# Altium schematic symbol library Schematic-Lib-ABahlmann-IC.SchLib: 124 symbols (part 4 of 4)
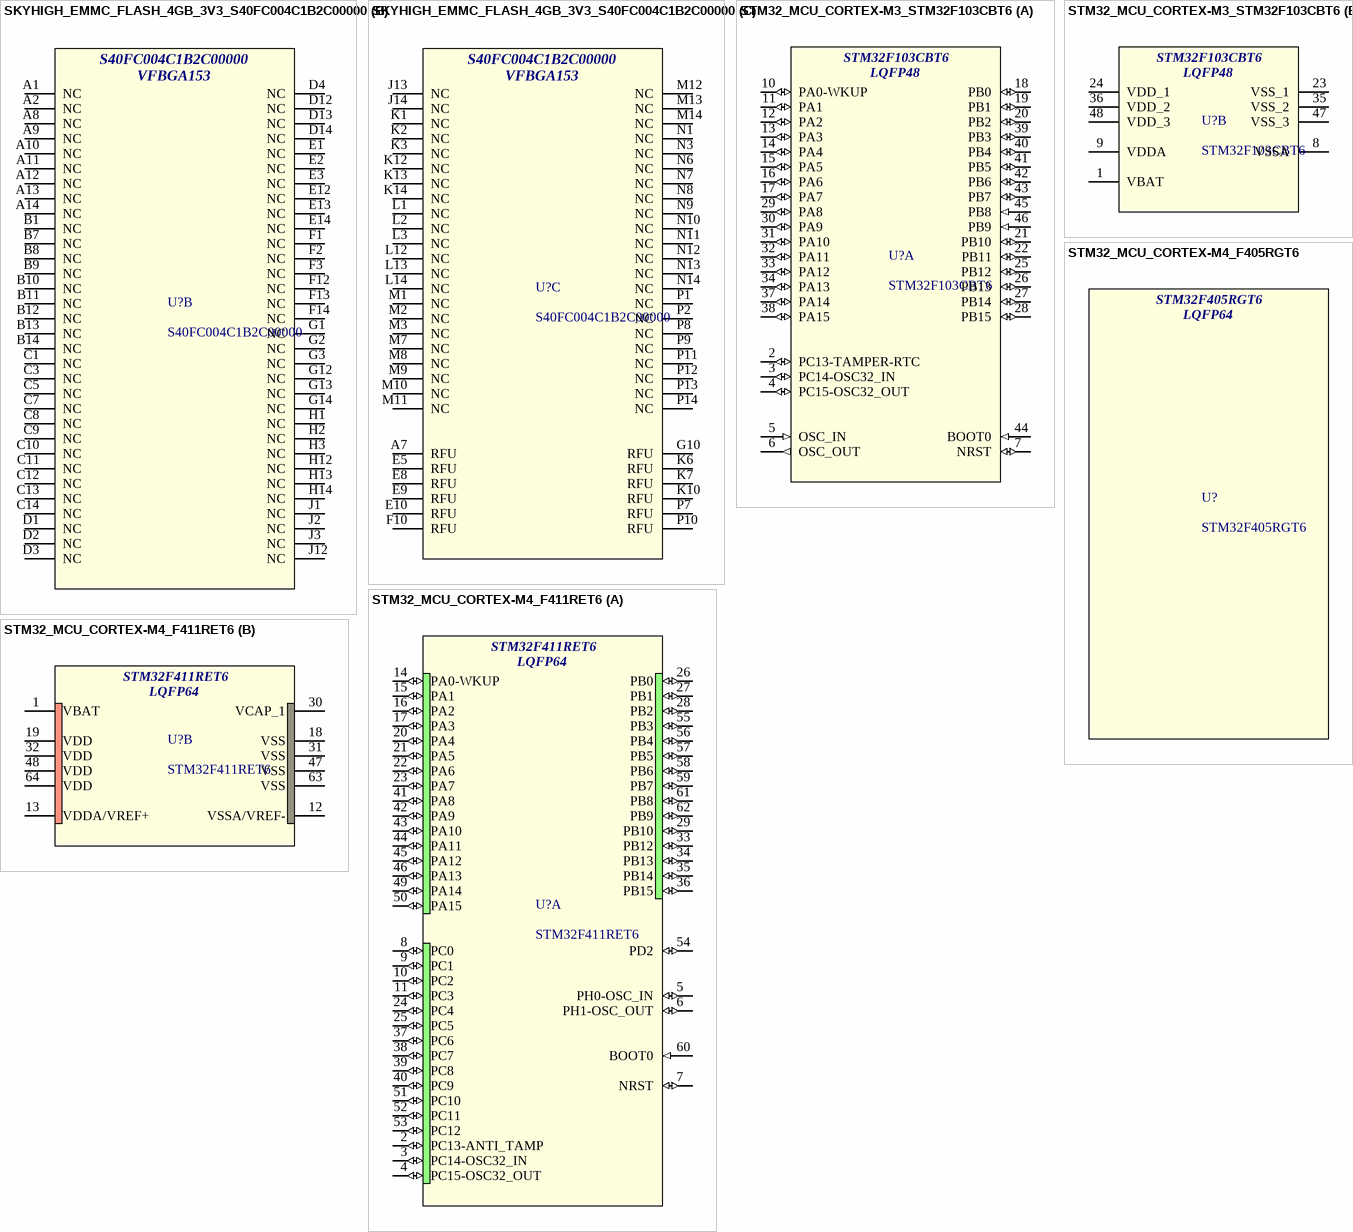
[diagram p24: symbols SKYHIGH_EMMC_FLASH_4GB_3V3_S40FC004C1B2C00000 to STM32_MCU_CORTEX-M4_F411RET6]

## STM32_MCU_CORTEX-M3_STM32F103CBT6
designator U?, comment STM32F103CBT6
ARM® Cortex®-M3 STM32F1 Microcontroller IC 32-Bit 72MHz 128KB (128K x 8) FLASH; ComponentLink1Description: Digikey; ComponentLink1URL: https://www.digikey.ca/en/products/detail/stmicroelectronics/STM32F103CBT6/1754420; ComponentLink2Description: Datasheet; ComponentLink2URL: https://www.st.com/resource/en/datasheet/stm32f103cb.pdf
footprint STM32_MCU_CORTEX-M3_STM32F103CBT6 (ARM® Cortex®-M3 STM32F1 Microcontroller IC 32-Bit 72MHz 128KB (128K x 8) FLASH)
part A pins: 2 PC13-TAMPER-RTC (io), 3 PC14-OSC32_IN (io), 4 PC15-OSC32_OUT (io), 5 OSC_IN (in), 6 OSC_OUT (out), 7 NRST (io), 10 PA0-WKUP (io), 11 PA1 (io), 12 PA2 (io), 13 PA3 (io), 14 PA4 (io), 15 PA5 (io), 16 PA6 (io), 17 PA7 (io), 18 PB0 (io), 19 PB1 (io), 20 PB2 (io), 21 PB10 (io), 22 PB11 (io), 25 PB12 (io), 26 PB13 (io), 27 PB14 (io), 28 PB15 (io), 29 PA8 (io), 30 PA9 (io), 31 PA10 (io), 32 PA11 (io), 33 PA12 (io), 34 PA13 (io), 37 PA14 (io), 38 PA15 (io), 39 PB3 (io), 40 PB4 (io), 41 PB5 (io), 42 PB6 (io), 43 PB7 (io), 44 BOOT0 (in), 45 PB8 (in), 46 PB9 (in)
part B pins: 1 VBAT (power), 8 VSSA (power), 9 VDDA (power), 23 VSS_1 (power), 24 VDD_1 (power), 35 VSS_2 (power), 36 VDD_2 (power), 47 VSS_3 (power), 48 VDD_3 (power)
part A text: LQFP48
part B text: LQFP48

## STM32_MCU_CORTEX-M4_F405RGT6
designator U?, comment STM32F405RGT6
ARM® Cortex®-M4 STM32F4 Microcontroller IC 32-Bit 168MHz 1MB (1M x 8) FLASH 64-LQFP (10x10); ComponentLink1Description: Digikey; ComponentLink1URL: https://www.digikey.ca/en/products/detail/stmicroelectronics/STM32F405RGT6/2754208; ComponentLink2Description: Datasheet; ComponentLink2URL: https://www.st.com/content/ccc/resource/technical/document/datasheet/ef/92/76/6d/bb/c2/4f/f7/DM00037051.pdf/files/DM00037051.pdf/jcr:content/translations/en.DM00037051.pdf
text: LQFP64

## STM32_MCU_CORTEX-M4_F411RET6
designator U?, comment STM32F411RET6
ARM® Cortex®-M4 STM32F4 Microcontroller IC 32-Bit 100MHz 512KB (512K x 8) FLASH 64-LQFP (10x10); ComponentLink1Description: Digikey; ComponentLink1URL: https://www.digikey.ca/en/products/detail/stmicroelectronics/STM32F411RET6/4935722; ComponentLink2Description: Datasheet; ComponentLink2URL: https://www.st.com/content/ccc/resource/technical/document/datasheet/b3/a5/46/3b/b4/e5/4c/85/DM00115249.pdf/files/DM00115249.pdf/jcr:content/translations/en.DM00115249.pdf; ComponentLink3Description: LCSC; ComponentLink3URL: https://www.lcsc.com/product-detail/C94355.html?s_z=n_STM32F411RET6
footprint LQFP-64-0.5mm (TSQFP, 64-Leads, Body 10.00x10.00mm, Pitch 0.50mm)
part A pins: 2 PC13-ANTI_TAMP (io), 3 PC14-OSC32_IN (io), 4 PC15-OSC32_OUT (io), 5 PH0-OSC_IN (io), 6 PH1-OSC_OUT (io), 7 NRST (io), 8 PC0 (io), 9 PC1 (io), 10 PC2 (io), 11 PC3 (io), 14 PA0-WKUP (io), 15 PA1 (io), 16 PA2 (io), 17 PA3 (io), 20 PA4 (io), 21 PA5 (io), 22 PA6 (io), 23 PA7 (io), 24 PC4 (io), 25 PC5 (io), 26 PB0 (io), 27 PB1 (io), 28 PB2 (io), 29 PB10 (io), 33 PB12 (io), 34 PB13 (io), 35 PB14 (io), 36 PB15 (io), 37 PC6 (io), 38 PC7 (io), 39 PC8 (io), 40 PC9 (io), 41 PA8 (io), 42 PA9 (io), 43 PA10 (io), 44 PA11 (io), 45 PA12 (io), 46 PA13 (io), 49 PA14 (io), 50 PA15 (io), 51 PC10 (io), 52 PC11 (io), 53 PC12 (io), 54 PD2 (io), 55 PB3 (io), 56 PB4 (io), 57 PB5 (io), 58 PB6 (io), 59 PB7 (io), 60 BOOT0 (in), 61 PB8 (io), 62 PB9 (io)
part B pins: 1 VBAT, 12 VSSA/VREF-, 13 VDDA/VREF+, 18 VSS, 19 VDD, 30 VCAP_1, 31 VSS, 32 VDD, 47 VSS, 48 VDD, 63 VSS, 64 VDD
part A text: LQFP64
part B text: LQFP64

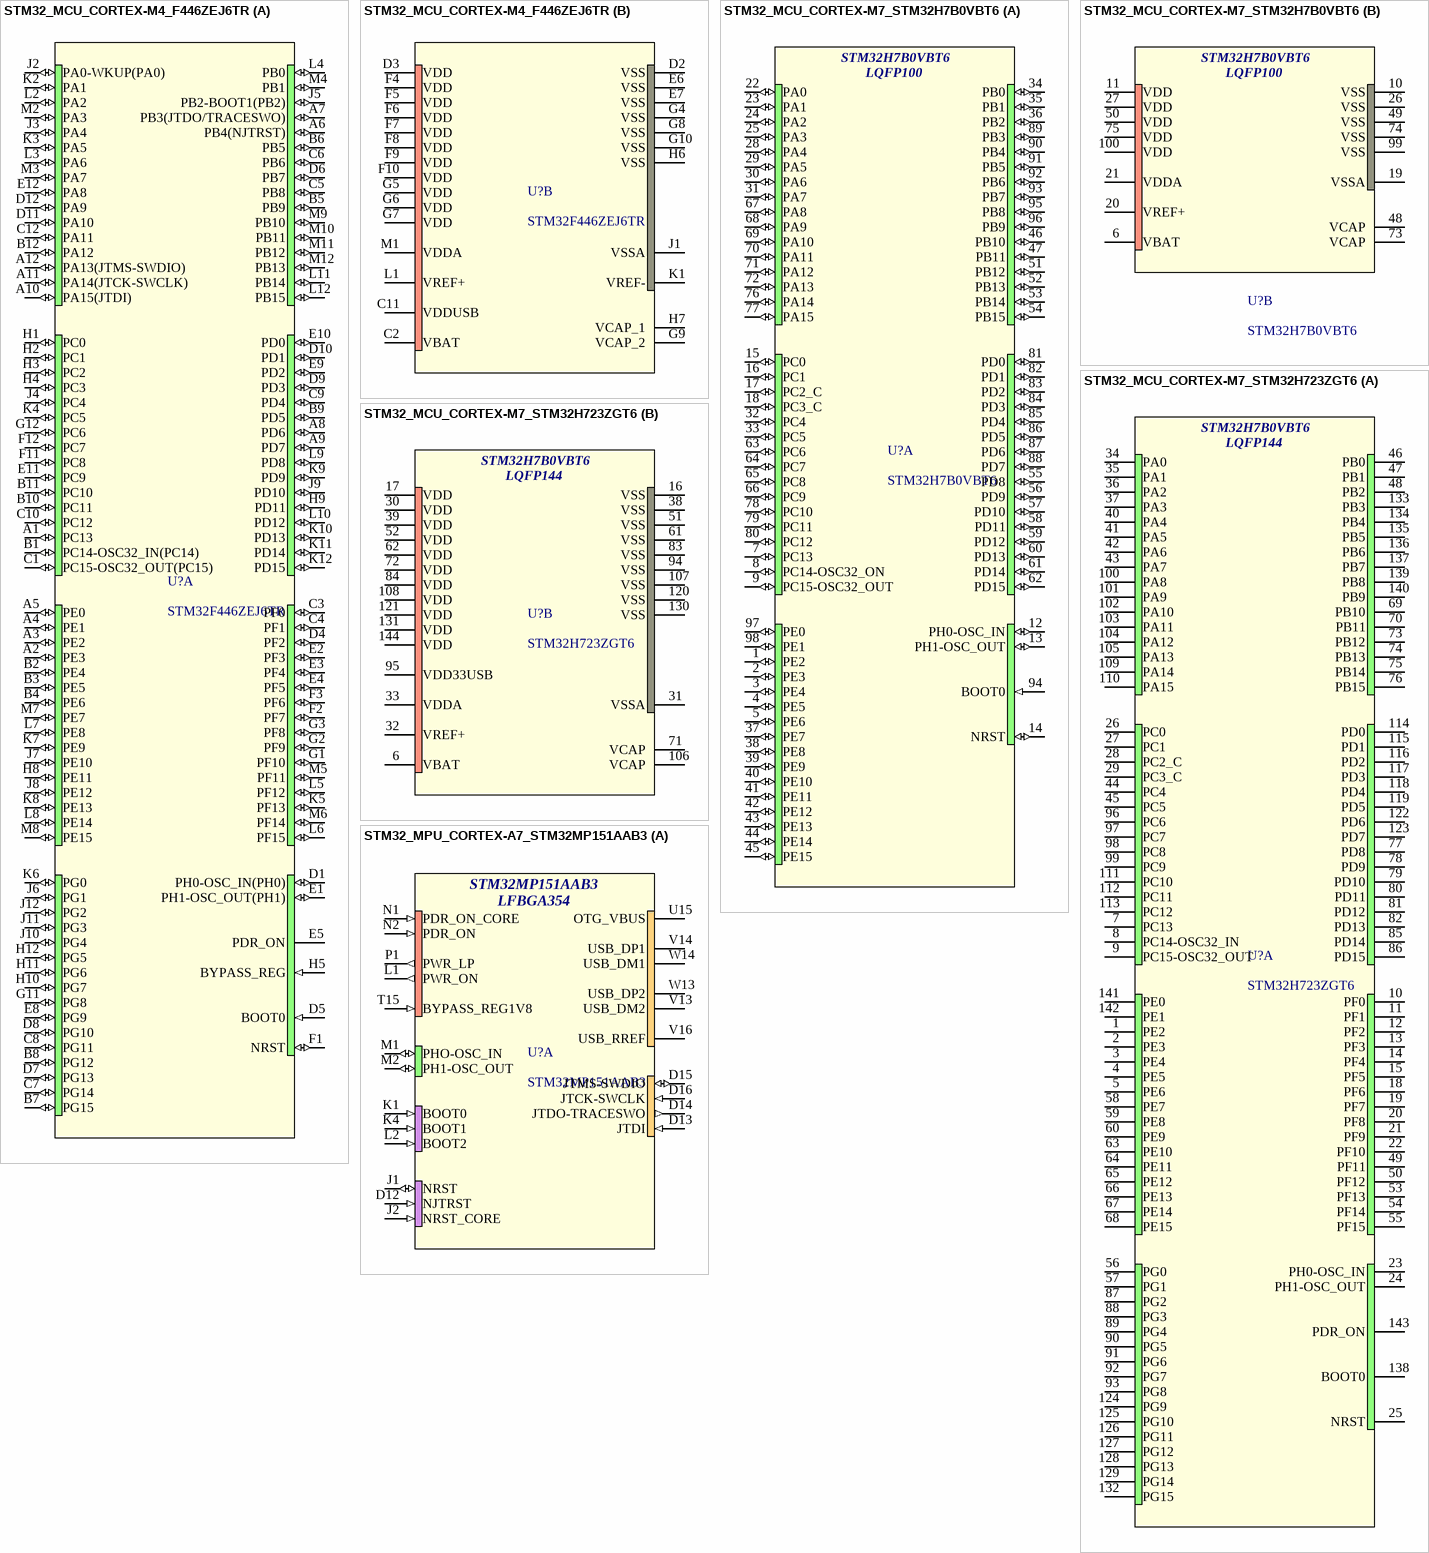
[diagram p17: symbols STM32_MCU_CORTEX-M4_F446ZEJ6TR to STM32_MPU_CORTEX-A7_STM32MP151AAB3]

## STM32_MCU_CORTEX-M4_F446ZEJ6TR
designator U?, comment STM32F446ZEJ6TR
ARM® Cortex®-M4 STM32F4 Microcontroller IC 32-Bit 180MHz 512KB (512K x 8) FLASH 144-UFBGA (10x10); ComponentLink1Description: Digikey; ComponentLink1URL: https://www.digikey.com/en/products/detail/stmicroelectronics/STM32F446ZEJ6TR/7313122; ComponentLink2Description: Datasheet; ComponentLink2URL: https://www.st.com/content/ccc/resource/technical/document/datasheet/65/cb/75/50/53/d6/48/24/DM00141306.pdf/files/DM00141306.pdf/jcr:content/translations/en.DM00141306.pdf
footprint STM32_MCU_CORTEX-M4_F446ZEJ6TR (ARM® Cortex®-M4 STM32F4 Microcontroller IC 32-Bit 180MHz 512KB (512K x 8) FLASH 144-UFBGA (10x10))
part A pins: A1 PC13 (io), A2 PE3 (io), A3 PE2 (io), A4 PE1 (io), A5 PE0 (io), A6 PB4(NJTRST) (io), A7 PB3(JTDO/TRACESWO) (io), A8 PD6 (io), A9 PD7 (io), A10 PA15(JTDI) (io), A11 PA14(JTCK-SWCLK) (io), A12 PA13(JTMS-SWDIO) (io), B1 PC14-OSC32_IN(PC14) (io), B2 PE4 (io), B3 PE5 (io), B4 PE6 (io), B5 PB9 (io), B6 PB5 (io), B7 PG15 (io), B8 PG12 (io), B9 PD5 (io), B10 PC11 (io), B11 PC10 (io), B12 PA12 (io), C1 PC15-OSC32_OUT(PC15) (io), C3 PF0 (io), C4 PF1 (io), C5 PB8 (io), C6 PB6 (io), C7 PG14 (io), C8 PG11 (io), C9 PD4 (io), C10 PC12 (io), C12 PA11 (io), D1 PH0-OSC_IN(PH0) (io), D4 PF2 (io), D5 BOOT0 (in), D6 PB7 (io), D7 PG13 (io), D8 PG10 (io), D9 PD3 (io), D10 PD1 (io), D11 PA10 (io), D12 PA9 (io), E1 PH1-OSC_OUT(PH1) (io), E2 PF3 (io), E3 PF4 (io), E4 PF5 (io), E5 PDR_ON (power), E8 PG9 (io), E9 PD2 (io), E10 PD0 (io), E11 PC9 (io), E12 PA8 (io), F1 NRST (io), F2 PF7 (io), F3 PF6 (io), F11 PC8 (io), F12 PC7 (io), G1 PF10 (io), G2 PF9 (io), G3 PF8 (io), G11 PG8 (io), G12 PC6 (io), H1 PC0 (io), H2 PC1 (io), H3 PC2 (io), H4 PC3 (io), H5 BYPASS_REG (in), H8 PE11 (io), H9 PD11 (io), H10 PG7 (io), H11 PG6 (io), H12 PG5 (io), J2 PA0-WKUP(PA0) (io), J3 PA4 (io), J4 PC4 (io), J5 PB2-BOOT1(PB2) (io), J6 PG1 (io), J7 PE10 (io), J8 PE12 (io), J9 PD10 (io), J10 PG4 (io), J11 PG3 (io), J12 PG2 (io), K2 PA1 (io), K3 PA5 (io), K4 PC5 (io), K5 PF13 (io), K6 PG0 (io), K7 PE9 (io), K8 PE13 (io), K9 PD9 (io), K10 PD13 (io), K11 PD14 (io), K12 PD15 (io), L2 PA2 (io), L3 PA6 (io), L4 PB0 (io), L5 PF12 (io), L6 PF15 (io), L7 PE8 (io), L8 PE14 (io), L9 PD8 (io), L10 PD12 (io), L11 PB14 (io), L12 PB15 (io), M2 PA3 (io), M3 PA7 (io), M4 PB1 (io), M5 PF11 (io), M6 PF14 (io), M7 PE7 (io), M8 PE15 (io), M9 PB10 (io), M10 PB11 (io), M11 PB12 (io), M12 PB13 (io)
part B pins: C2 VBAT (power), C11 VDDUSB (power), D2 VSS (power), D3 VDD (power), E6 VSS (power), E7 VSS (power), F4 VDD (power), F5 VDD (power), F6 VDD (power), F7 VDD (power), F8 VDD (power), F9 VDD (power), F10 VDD (power), G4 VSS (power), G5 VDD (power), G6 VDD (power), G7 VDD (power), G8 VSS (power), G9 VCAP_2 (power), G10 VSS (power), H6 VSS (power), H7 VCAP_1 (power), J1 VSSA (power), K1 VREF- (power), L1 VREF+ (power), M1 VDDA (power)

## STM32_MCU_CORTEX-M7_STM32H7B0VBT6
designator U?, comment STM32H7B0VBT6
ARM® Cortex®-M7 STM32H7 Microcontroller IC 32-Bit 280MHz 128KB (128K x 8) FLASH 100-LQFP (14x14); ComponentLink1Description: Digikey; ComponentLink1URL: https://www.digikey.ca/en/products/detail/stmicroelectronics/STM32H7B0VBT6/11591224; ComponentLink2Description: Datasheet; ComponentLink2URL: https://www.st.com/resource/en/datasheet/stm32h7b0vb.pdf; ComponentLink3Description: LCSC; ComponentLink3URL: https://jlcpcb.com/partdetail/STMicroelectronics-STM32H7B0VBT6/C730227
footprint STM32_MCU_CORTEX-M7_STM32H7B0VBT6 (ARM® Cortex®-M7 STM32H7 Microcontroller IC 32-Bit 280MHz 128KB (128K x 8) FLASH 100-LQFP (14x14))
part A pins: 1 PE2 (io), 2 PE3 (io), 3 PE4 (io), 4 PE5 (io), 5 PE6 (io), 7 PC13 (io), 8 PC14-OSC32_ON (io), 9 PC15-OSC32_OUT (io), 12 PH0-OSC_IN (io), 13 PH1-OSC_OUT (io), 14 NRST (io), 15 PC0 (io), 16 PC1 (io), 17 PC2_C (io), 18 PC3_C (io), 22 PA0 (io), 23 PA1 (io), 24 PA2 (io), 25 PA3 (io), 28 PA4 (io), 29 PA5 (io), 30 PA6 (io), 31 PA7 (io), 32 PC4 (io), 33 PC5 (io), 34 PB0 (io), 35 PB1 (io), 36 PB2 (io), 37 PE7 (io), 38 PE8 (io), 39 PE9 (io), 40 PE10 (io), 41 PE11 (io), 42 PE12 (io), 43 PE13 (io), 44 PE14 (io), 45 PE15 (io), 46 PB10 (io), 47 PB11 (io), 51 PB12 (io), 52 PB13 (io), 53 PB14 (io), 54 PB15 (io), 55 PD8 (io), 56 PD9 (io), 57 PD10 (io), 58 PD11 (io), 59 PD12 (io), 60 PD13 (io), 61 PD14 (io), 62 PD15 (io), 63 PC6 (io), 64 PC7 (io), 65 PC8 (io), 66 PC9 (io), 67 PA8 (io), 68 PA9 (io), 69 PA10 (io), 70 PA11 (io), 71 PA12 (io), 72 PA13 (io), 76 PA14 (io), 77 PA15 (io), 78 PC10 (io), 79 PC11 (io), 80 PC12 (io), 81 PD0 (io), 82 PD1 (io), 83 PD2 (io), 84 PD3 (io), 85 PD4 (io), 86 PD5 (io), 87 PD6 (io), 88 PD7 (io), 89 PB3 (io), 90 PB4 (io), 91 PB5 (io), 92 PB6 (io), 93 PB7 (io), 94 BOOT0 (in), 95 PB8 (io), 96 PB9 (io), 97 PE0 (io), 98 PE1 (io)
part B pins: 6 VBAT (power), 10 VSS (power), 11 VDD (power), 19 VSSA (power), 20 VREF+ (power), 21 VDDA (power), 26 VSS (power), 27 VDD (power), 48 VCAP (power), 49 VSS (power), 50 VDD (power), 73 VCAP (power), 74 VSS (power), 75 VDD (power), 99 VSS (power), 100 VDD (power)
part A text: LQFP100
part B text: LQFP100

## STM32_MCU_CORTEX-M7_STM32H723ZGT6
designator U?, comment STM32H723ZGT6
ARM® Cortex®-M7 STM32H7 Microcontroller IC 32-Bit 550MHz 1MB (1M x 8) FLASH 144-LQFP (20x20); ComponentLink1Description: Digikey; ComponentLink1URL: https://www.digikey.ca/en/products/detail/stmicroelectronics/STM32H723ZGT6/13171205; ComponentLink2Description: Datasheet; ComponentLink2URL: https://www.st.com/resource/en/datasheet/stm32h723ve.pdf; ComponentLink3Description: LCSC; ComponentLink3URL: https://jlcpcb.com/partdetail/STMicroelectronics-STM32H723ZGT6/C730146
footprint STM32_MCU_CORTEX-M7_STM32H723ZGT6 (ARM® Cortex®-M7 STM32H7 Microcontroller IC 32-Bit 550MHz 1MB (1M x 8) FLASH 144-LQFP (20x20))
part A pins: 1 PE2, 2 PE3, 3 PE4, 4 PE5, 5 PE6, 7 PC13, 8 PC14-OSC32_IN, 9 PC15-OSC32_OUT, 10 PF0, 11 PF1, 12 PF2, 13 PF3, 14 PF4, 15 PF5, 18 PF6, 19 PF7, 20 PF8, 21 PF9, 22 PF10, 23 PH0-OSC_IN, 24 PH1-OSC_OUT, 25 NRST, 26 PC0, 27 PC1, 28 PC2_C, 29 PC3_C, 34 PA0, 35 PA1, 36 PA2, 37 PA3, 40 PA4, 41 PA5, 42 PA6, 43 PA7, 44 PC4, 45 PC5, 46 PB0, 47 PB1, 48 PB2, 49 PF11, 50 PF12, 53 PF13, 54 PF14, 55 PF15, 56 PG0, 57 PG1, 58 PE7, 59 PE8, 60 PE9, 63 PE10, 64 PE11, 65 PE12, 66 PE13, 67 PE14, 68 PE15, 69 PB10, 70 PB11, 73 PB12, 74 PB13, 75 PB14, 76 PB15, 77 PD8, 78 PD9, 79 PD10, 80 PD11, 81 PD12, 82 PD13, 85 PD14, 86 PD15, 87 PG2, 88 PG3, 89 PG4, 90 PG5, 91 PG6, 92 PG7, 93 PG8, 96 PC6, 97 PC7, 98 PC8, 99 PC9, 100 PA8, 101 PA9, 102 PA10, 103 PA11, 104 PA12, 105 PA13, 109 PA14, 110 PA15, 111 PC10, 112 PC11, 113 PC12, 114 PD0, 115 PD1, 116 PD2, 117 PD3, 118 PD4, 119 PD5, 122 PD6, 123 PD7, 124 PG9, 125 PG10, 126 PG11, 127 PG12, 128 PG13, 129 PG14, 132 PG15, 133 PB3, 134 PB4, 135 PB5, 136 PB6, 137 PB7, 138 BOOT0, 139 PB8, 140 PB9, 141 PE0, 142 PE1, 143 PDR_ON
part B pins: 6 VBAT, 16 VSS, 17 VDD, 30 VDD, 31 VSSA, 32 VREF+, 33 VDDA, 38 VSS, 39 VDD, 51 VSS, 52 VDD, 61 VSS, 62 VDD, 71 VCAP, 72 VDD, 83 VSS, 84 VDD, 94 VSS, 95 VDD33USB, 106 VCAP, 107 VSS, 108 VDD, 120 VSS, 121 VDD, 130 VSS, 131 VDD, 144 VDD
part A text: STM32H7B0VBT6; LQFP144
part B text: STM32H7B0VBT6; LQFP144

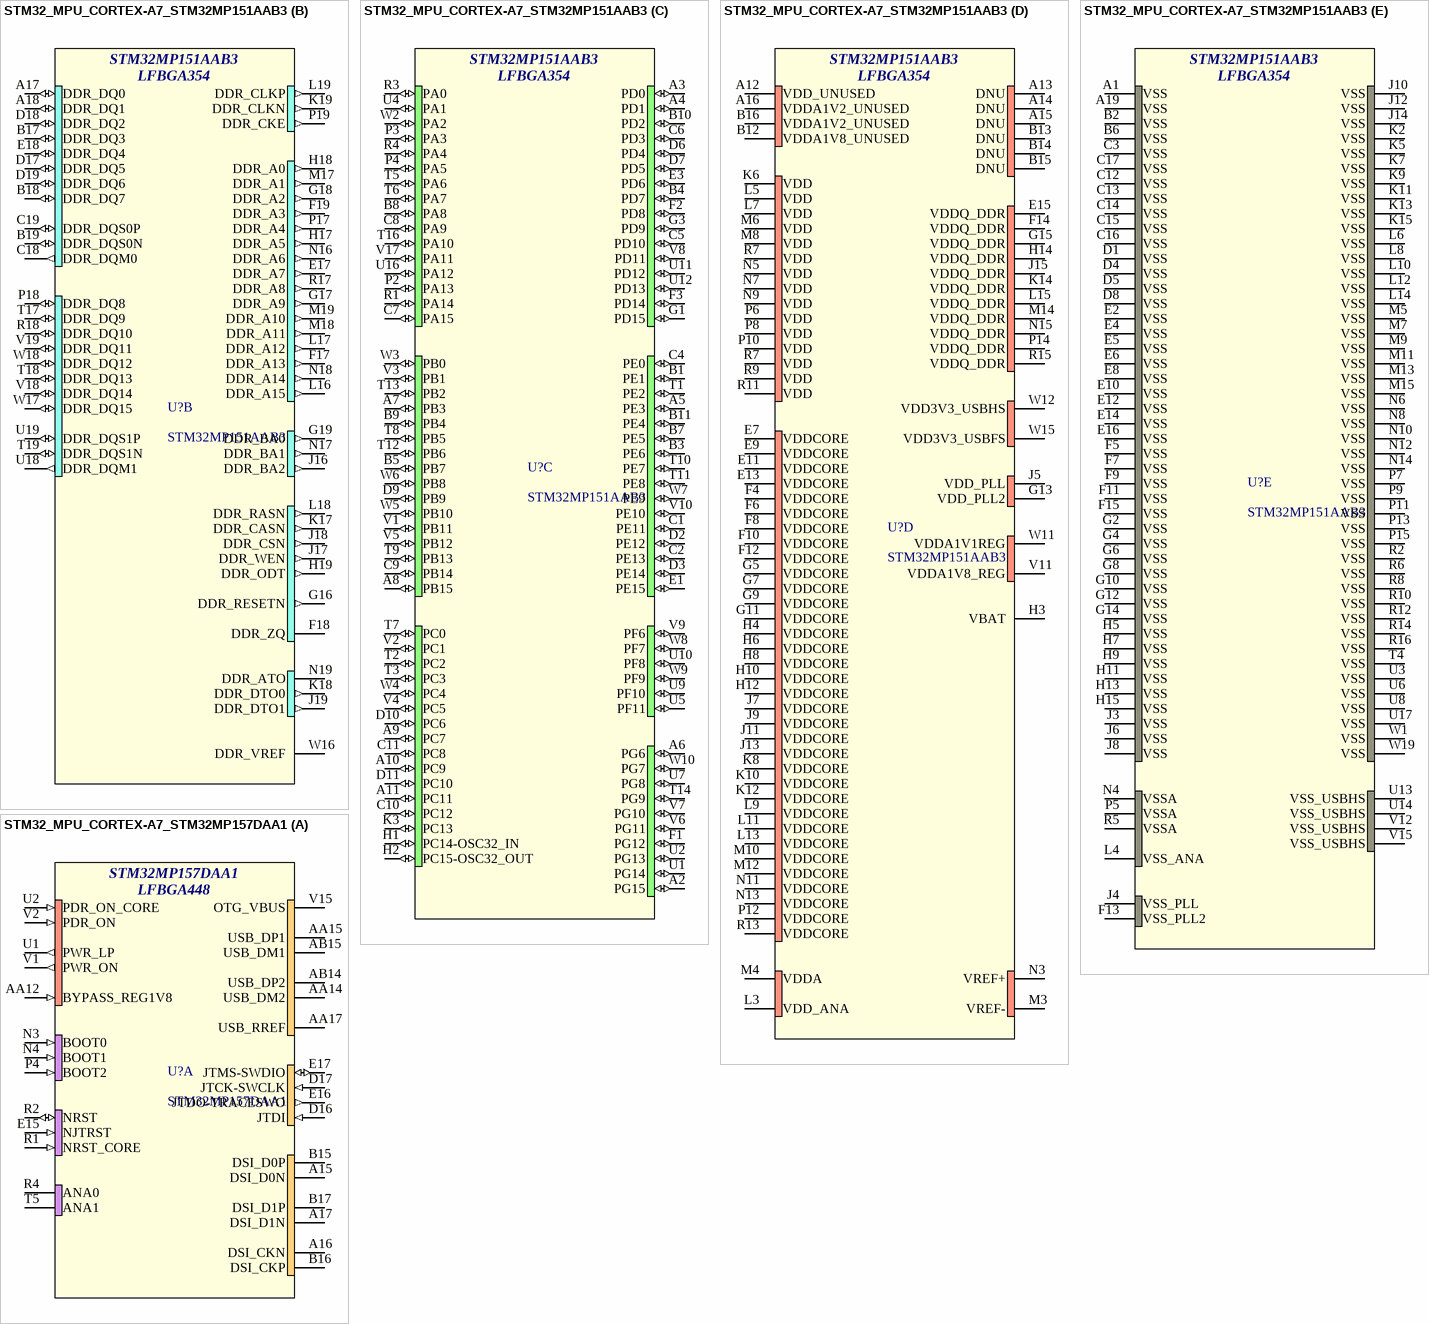
[diagram p18: symbols STM32_MPU_CORTEX-A7_STM32MP151AAB3 to STM32_MPU_CORTEX-A7_STM32MP157DAA1]

## STM32_MPU_CORTEX-A7_STM32MP151AAB3
designator U?, comment STM32MP151AAB3
ARM® Cortex®-A7 Microprocessor IC STM32MP1 1 Core, 32-Bit 209MHz, 650MHz 354-LFBGA (16x16); ComponentLink1Description: Digikey; ComponentLink1URL: https://www.digikey.ca/en/products/detail/stmicroelectronics/STM32MP151AAB3/10058601; ComponentLink2Description: Mouser; ComponentLink2URL: https://www.mouser.ca/ProductDetail/STMicroelectronics/STM32MP151AAB3?qs=9r4v7xj2Lnn9f1gOjh4FIw%3D%3D
footprint STM32_MPU_CORTEX-A7_STM32MP151AAB3 (ARM® Cortex®-A7 Microprocessor IC STM32MP1 1 Core, 32-Bit 209MHz, 650MHz 354-LFBGA (16x16))
part A pins: D12 NJTRST (in), D13 JTDI (in), D14 JTDO-TRACESWO (out), D15 JTMS-SWDIO (io), D16 JTCK-SWCLK (in), J1 NRST (io), J2 NRST_CORE (in), K1 BOOT0 (in), K4 BOOT1 (in), L1 PWR_ON (out), L2 BOOT2 (in), M1 PHO-OSC_IN (io), M2 PH1-OSC_OUT (io), N1 PDR_ON_CORE (in), N2 PDR_ON (in), P1 PWR_LP (out), T15 BYPASS_REG1V8 (in), U15 OTG_VBUS, V13 USB_DM2, V14 USB_DP1, V16 USB_RREF, W13 USB_DP2, W14 USB_DM1
part B pins: A17 DDR_DQ0 (io), A18 DDR_DQ1 (io), B17 DDR_DQ3 (io), B18 DDR_DQ7 (io), B19 DDR_DQS0N (io), C18 DDR_DQM0 (out), C19 DDR_DQS0P (io), D17 DDR_DQ5 (io), D18 DDR_DQ2 (io), D19 DDR_DQ6 (io), E17 DDR_A7 (out), E18 DDR_DQ4 (io), F17 DDR_A13 (out), F18 DDR_ZQ, F19 DDR_A3 (out), G16 DDR_RESETN (out), G17 DDR_A9 (out), G18 DDR_A2 (out), G19 DDR_BA0 (out), H17 DDR_A5 (out), H18 DDR_A0 (out), H19 DDR_ODT (out), J16 DDR_BA2 (out), J17 DDR_WEN (out), J18 DDR_CSN (out), J19 DDR_DTO1 (out), K17 DDR_CASN (out), K18 DDR_DTO0 (out), K19 DDR_CLKN (out), L16 DDR_A15 (out), L17 DDR_A12 (out), L18 DDR_RASN (out), L19 DDR_CLKP (out), M17 DDR_A1 (out), M18 DDR_A11 (out), M19 DDR_A10 (out), N16 DDR_A6 (out), N17 DDR_BA1 (out), N18 DDR_A14 (out), N19 DDR_ATO, P17 DDR_A4 (out), P18 DDR_DQ8 (io), P19 DDR_CKE (out), R17 DDR_A8 (out), R18 DDR_DQ10 (io), T17 DDR_DQ9 (io), T18 DDR_DQ13 (io), T19 DDR_DQS1N (io), U18 DDR_DQM1 (out), U19 DDR_DQS1P (io), V18 DDR_DQ14 (io), V19 DDR_DQ11 (io), W16 DDR_VREF, W17 DDR_DQ15 (io), W18 DDR_DQ12 (io)
part C pins: A2 PG15 (io), A3 PD0 (io), A4 PD1 (io), A5 PE3 (io), A6 PG6 (io), A7 PB3 (io), A8 PB15 (io), A9 PC7 (io), A10 PC9 (io), A11 PC11 (io), B1 PE1 (io), B3 PE6 (io), B4 PD7 (io), B5 PB7 (io), B7 PE5 (io), B8 PA8 (io), B9 PB4 (io), B10 PD2 (io), B11 PE4 (io), C1 PE11 (io), C2 PE13 (io), C4 PE0 (io), C5 PD10 (io), C6 PD3 (io), C7 PA15 (io), C8 PA9 (io), C9 PB14 (io), C10 PC12 (io), C11 PC8 (io), D2 PE12 (io), D3 PE14 (io), D6 PD4 (io), D7 PD5 (io), D9 PB9 (io), D10 PC6 (io), D11 PC10 (io), E1 PE15 (io), E3 PD6 (io), F1 PG12 (io), F2 PD8 (io), F3 PD14 (io), G1 PD15 (io), G3 PD9 (io), H1 PC14-OSC32_IN (io), H2 PC15-OSC32_OUT (io), K3 PC13 (io), P2 PA13 (io), P3 PA3 (io), P4 PA5 (io), R1 PA14 (io), R3 PA0 (io), R4 PA4 (io), T1 PE2 (io), T2 PC2 (io), T3 PC3 (io), T5 PA6 (io), T6 PA7 (io), T7 PC0 (io), T8 PB5 (io), T9 PB13 (io), T10 PE7 (io), T11 PE8 (io), T12 PB6 (io), T13 PB2 (io), T14 PG9 (io), T16 PA10 (io), U1 PG14 (io), U2 PG13 (io), U4 PA1 (io), U5 PF11 (io), U7 PG8 (io), U9 PF10 (io), U10 PF8 (io), U11 PD12 (io), U12 PD13 (io), U16 PA12 (io), V1 PB11 (io), V2 PC1 (io), V3 PB1 (io), V4 PC5 (io), V5 PB12 (io), V6 PG11 (io), V7 PG10 (io), V8 PD11 (io), V9 PF6 (io), V10 PE10 (io), V17 PA11 (io), W2 PA2 (io), W3 PB0 (io), W4 PC4 (io), W5 PB10 (io), W6 PB8 (io), W7 PE9 (io), W8 PF7 (io), W9 PF9 (io), W10 PG7 (io)
part D pins: A12 VDD_UNUSED (power), A13 DNU, A14 DNU, A15 DNU, A16 VDDA1V2_UNUSED (power), B12 VDDA1V8_UNUSED (power), B13 DNU, B14 DNU, B15 DNU, B16 VDDA1V2_UNUSED (power), E7 VDDCORE (power), E9 VDDCORE (power), E11 VDDCORE (power), E13 VDDCORE (power), E15 VDDQ_DDR (power), F4 VDDCORE (power), F6 VDDCORE (power), F8 VDDCORE (power), F10 VDDCORE (power), F12 VDDCORE (power), F14 VDDQ_DDR (power), G5 VDDCORE (power), G7 VDDCORE (power), G9 VDDCORE (power), G11 VDDCORE (power), G13 VDD_PLL2 (power), G15 VDDQ_DDR (power), H3 VBAT (power), H4 VDDCORE (power), H6 VDDCORE (power), H8 VDDCORE (power), H10 VDDCORE (power), H12 VDDCORE (power), H14 VDDQ_DDR (power), J5 VDD_PLL (power), J7 VDDCORE (power), J9 VDDCORE (power), J11 VDDCORE (power), J13 VDDCORE (power), J15 VDDQ_DDR (power), K6 VDD (power), K8 VDDCORE (power), K10 VDDCORE (power), K12 VDDCORE (power), K14 VDDQ_DDR (power), L3 VDD_ANA (power), L5 VDD (power), L7 VDD (power), L9 VDDCORE (power), L11 VDDCORE (power), L13 VDDCORE (power), L15 VDDQ_DDR (power), M3 VREF- (power), M4 VDDA (power), M6 VDD (power), M8 VDD (power), M10 VDDCORE (power), M12 VDDCORE (power), M14 VDDQ_DDR (power), N3 VREF+ (power), N5 VDD (power), N7 VDD (power), N9 VDD (power), N11 VDDCORE (power), N13 VDDCORE (power), N15 VDDQ_DDR (power), P6 VDD (power), P8 VDD (power), P10 VDD (power), P12 VDDCORE (power), P14 VDDQ_DDR (power), R7 VDD (power), R7 VDD (power), R9 VDD (power), R11 VDD (power), R13 VDDCORE (power), R15 VDDQ_DDR (power), V11 VDDA1V8_REG (power), W11 VDDA1V1REG (power), W12 VDD3V3_USBHS (power), W15 VDD3V3_USBFS (power)
part E pins: A1 VSS (power), A19 VSS (power), B2 VSS (power), B6 VSS (power), C3 VSS (power), C12 VSS (power), C13 VSS (power), C14 VSS (power), C15 VSS (power), C16 VSS (power), C17 VSS (power), D1 VSS (power), D4 VSS (power), D5 VSS (power), D8 VSS (power), E2 VSS (power), E4 VSS (power), E5 VSS (power), E6 VSS (power), E8 VSS (power), E10 VSS (power), E12 VSS (power), E14 VSS (power), E16 VSS (power), F5 VSS (power), F7 VSS (power), F9 VSS (power), F11 VSS (power), F13 VSS_PLL2 (power), F15 VSS (power), G2 VSS (power), G4 VSS (power), G6 VSS (power), G8 VSS (power), G10 VSS (power), G12 VSS (power), G14 VSS (power), H5 VSS (power), H7 VSS (power), H9 VSS (power), H11 VSS (power), H13 VSS (power), H15 VSS (power), J3 VSS (power), J4 VSS_PLL (power), J6 VSS (power), J8 VSS (power), J10 VSS (power), J12 VSS (power), J14 VSS (power), K2 VSS (power), K5 VSS (power), K7 VSS (power), K9 VSS (power), K11 VSS (power), K13 VSS (power), K15 VSS (power), L4 VSS_ANA (power), L6 VSS (power), L8 VSS (power), L10 VSS (power), L12 VSS (power), L14 VSS (power), M5 VSS (power), M7 VSS (power), M9 VSS (power), M11 VSS (power), M13 VSS (power), M15 VSS (power), N4 VSSA (power), N6 VSS (power), N8 VSS (power), N10 VSS (power), N12 VSS (power), N14 VSS (power), P5 VSSA (power), P7 VSS (power), P9 VSS (power), P11 VSS (power), P13 VSS (power), P15 VSS (power), R2 VSS (power), R5 VSSA (power), R6 VSS (power), R8 VSS (power), R10 VSS (power), R12 VSS (power), R14 VSS (power), R16 VSS (power), T4 VSS (power), U3 VSS (power), U6 VSS (power), U8 VSS (power), U13 VSS_USBHS (power), U14 VSS_USBHS (power), U17 VSS (power), V12 VSS_USBHS (power), V15 VSS_USBHS (power), W1 VSS (power), W19 VSS (power)
part A text: LFBGA354
part B text: LFBGA354
part C text: LFBGA354
part D text: LFBGA354
part E text: LFBGA354

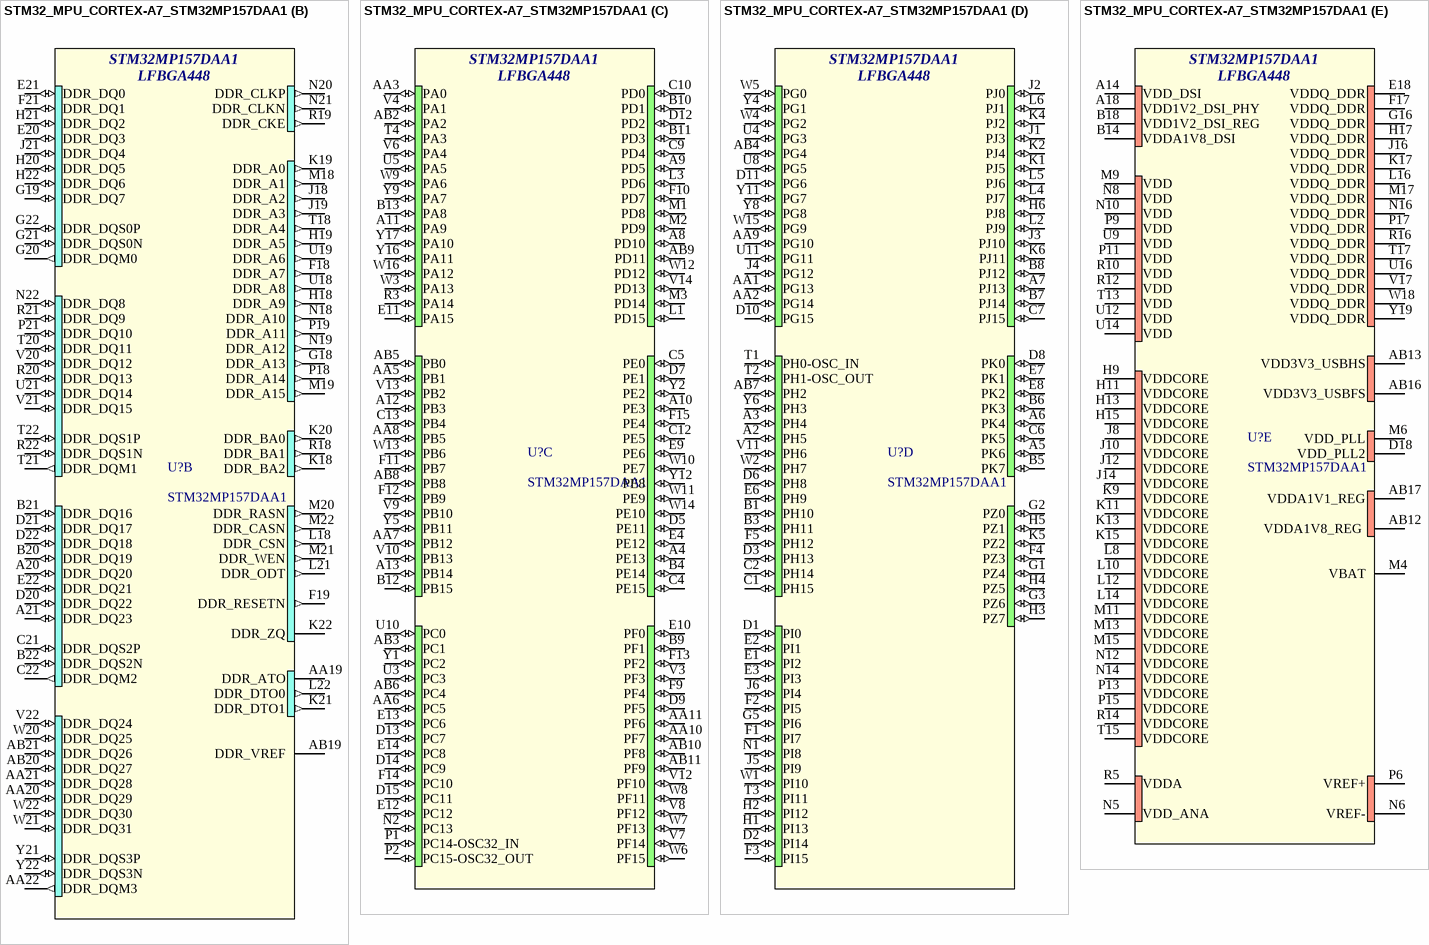
[diagram p19: symbol STM32_MPU_CORTEX-A7_STM32MP157DAA1]

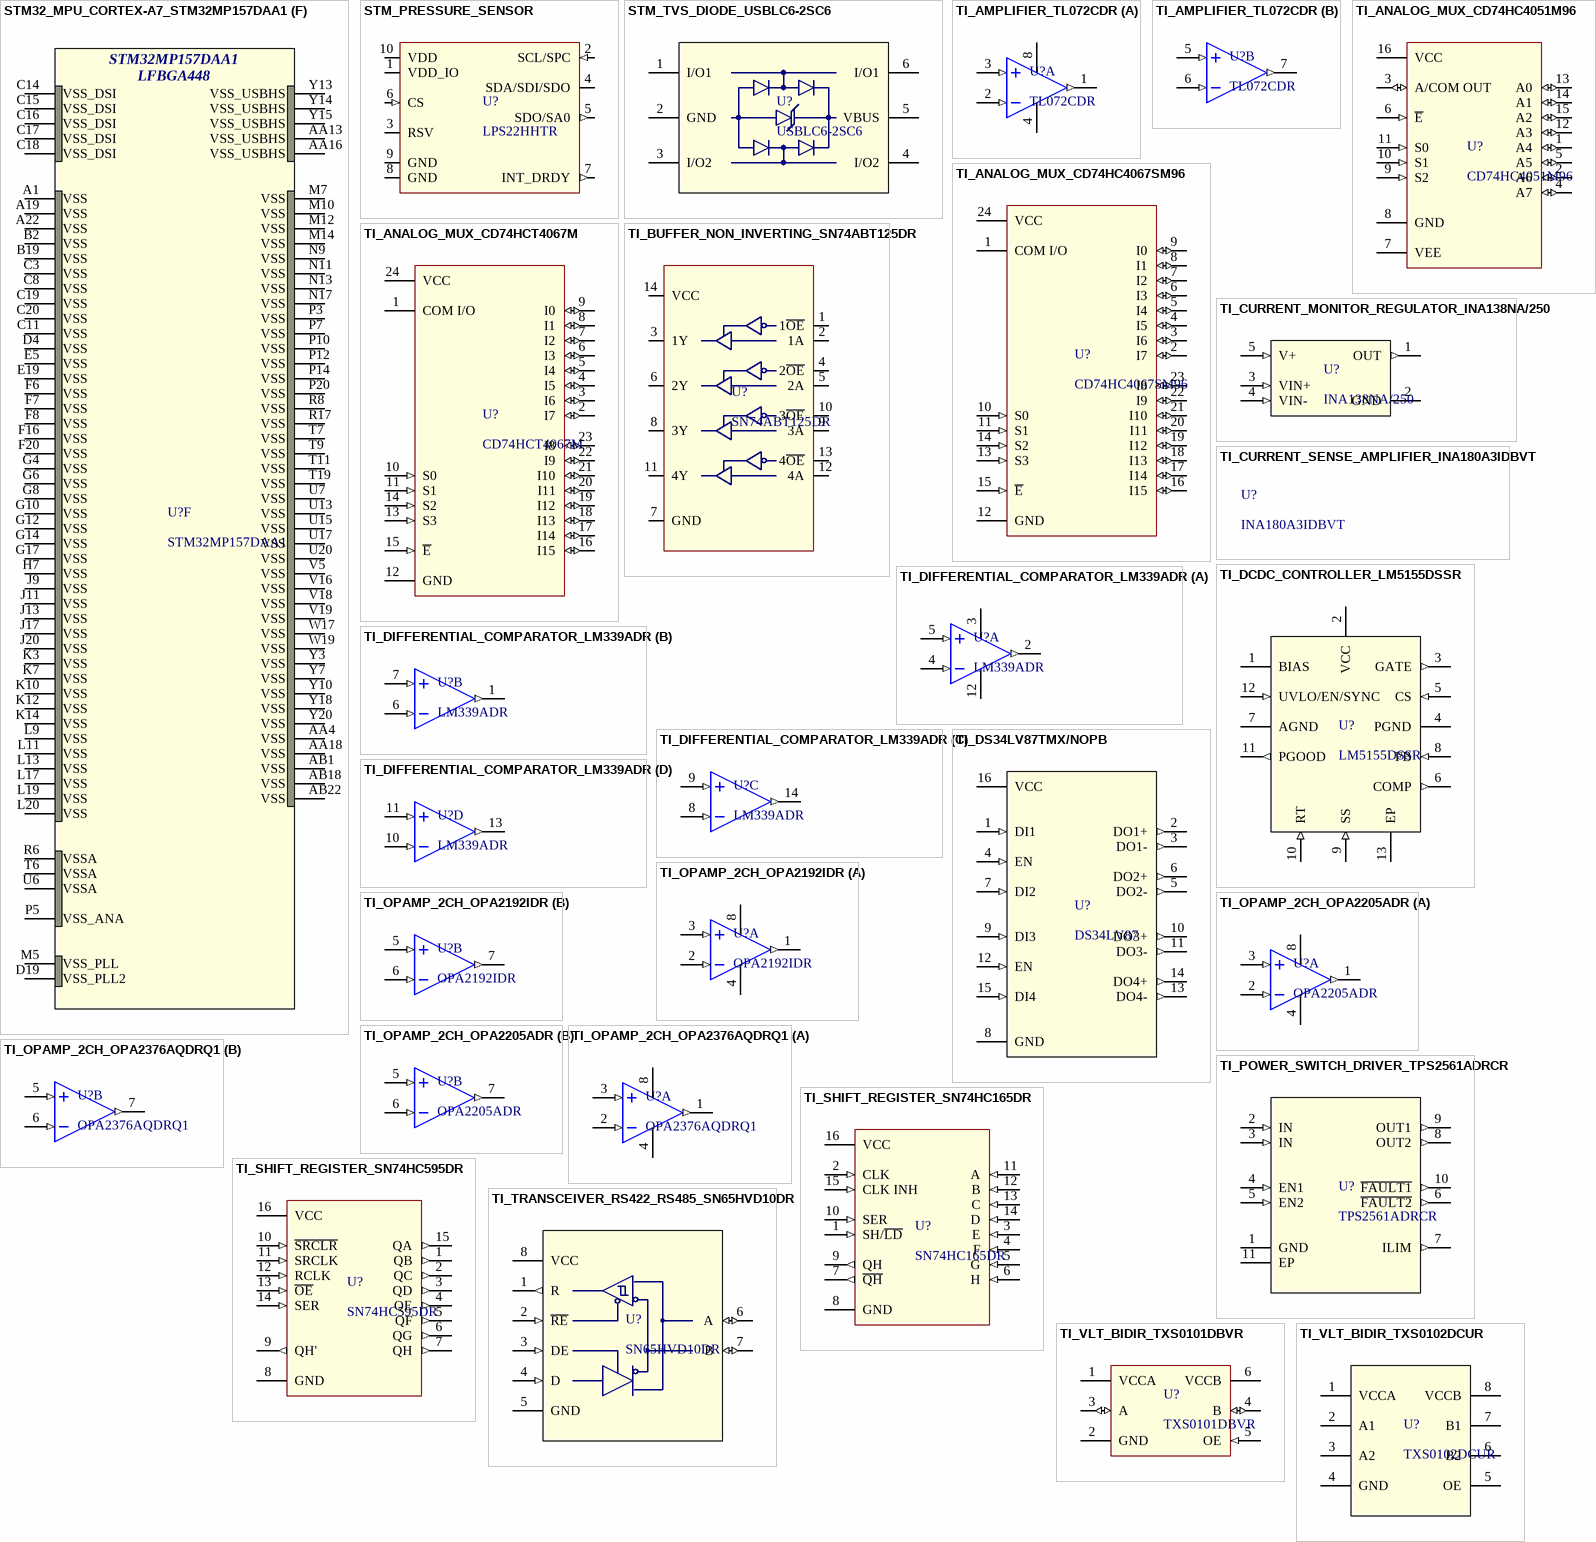
[diagram p20: symbols STM32_MPU_CORTEX-A7_STM32MP157DAA1 to TI_VLT_BIDIR_TXS0102DCUR]

## STM32_MPU_CORTEX-A7_STM32MP157DAA1
designator U?, comment STM32MP157DAA1
ARM® Cortex®-A7 Microprocessor IC STM32MP1 2 Core, 32-Bit 209MHz, 800MHz 448-LFBGA (18x18); ComponentLink1Description: Digikey; ComponentLink1URL: https://www.digikey.ca/en/products/detail/stmicroelectronics/STM32MP157DAA1/11591228?s=N4IgTCBcDaIMoBUCyBmMSAKBGArAdgBEBBIrEAXQF8g; ComponentLink2Description: Datahsheet; ComponentLink2URL: https://www.st.com/resource/en/datasheet/stm32mp157a.pdf; ComponentLink3Description: ST; ComponentLink3URL: https://www.st.com/en/microcontrollers-microprocessors/stm32mp157d.html#documentation
footprint STM32_MPU_CORTEX-A7_STM32MP157DAA1 (ARM® Cortex®-A7 Microprocessor IC STM32MP1 2 Core, 32-Bit 209MHz, 800MHz 448-LFBGA (18x18))
part A pins: A15 DSI_D0N, A16 DSI_CKN, A17 DSI_D1N, AA12 BYPASS_REG1V8 (in), AA14 USB_DM2, AA15 USB_DP1, AA17 USB_RREF, AB14 USB_DP2, AB15 USB_DM1, B15 DSI_D0P, B16 DSI_CKP, B17 DSI_D1P, D16 JTDI (in), D17 JTCK-SWCLK (in), E15 NJTRST (in), E16 JTDO-TRACESWO (out), E17 JTMS-SWDIO (io), N3 BOOT0 (in), N4 BOOT1 (in), P4 BOOT2 (in), R1 NRST_CORE (in), R2 NRST (io), R4 ANA0, T5 ANA1, U1 PWR_LP (out), U2 PDR_ON_CORE (in), V1 PWR_ON (out), V2 PDR_ON (in), V15 OTG_VBUS
part B pins: A20 DDR_DQ20 (io), A21 DDR_DQ23 (io), AA19 DDR_ATO, AA20 DDR_DQ29 (io), AA21 DDR_DQ28 (io), AA22 DDR_DQM3 (out), AB19 DDR_VREF, AB20 DDR_DQ27 (io), AB21 DDR_DQ26 (io), B20 DDR_DQ19 (io), B21 DDR_DQ16 (io), B22 DDR_DQS2N (io), C21 DDR_DQS2P (io), C22 DDR_DQM2 (out), D20 DDR_DQ22 (io), D21 DDR_DQ17 (io), D22 DDR_DQ18 (io), E20 DDR_DQ3 (io), E21 DDR_DQ0 (io), E22 DDR_DQ21 (io), F18 DDR_A7 (out), F19 DDR_RESETN (out), F21 DDR_DQ1 (io), G18 DDR_A13 (out), G19 DDR_DQ7 (io), G20 DDR_DQM0 (out), G21 DDR_DQS0N (io), G22 DDR_DQS0P (io), H18 DDR_A9 (out), H19 DDR_A5 (out), H20 DDR_DQ5 (io), H21 DDR_DQ2 (io), H22 DDR_DQ6 (io), J18 DDR_A2 (out), J19 DDR_A3 (out), J21 DDR_DQ4 (io), K18 DDR_BA2 (out), K19 DDR_A0 (out), K20 DDR_BA0 (out), K21 DDR_DTO1 (out), K22 DDR_ZQ, L18 DDR_CSN (out), L21 DDR_ODT (out), L22 DDR_DTO0 (out), M18 DDR_A1 (out), M19 DDR_A15 (out), M20 DDR_RASN (out), M21 DDR_WEN (out), M22 DDR_CASN (out), N18 DDR_A10 (out), N19 DDR_A12 (out), N20 DDR_CLKP (out), N21 DDR_CLKN (out), N22 DDR_DQ8 (io), P18 DDR_A14 (out), P19 DDR_A11 (out), P21 DDR_DQ10 (io), R18 DDR_BA1 (out), R19 DDR_CKE (out), R20 DDR_DQ13 (io), R21 DDR_DQ9 (io), R22 DDR_DQS1N (io), T18 DDR_A4 (out), T20 DDR_DQ11 (io), T21 DDR_DQM1 (out), T22 DDR_DQS1P (io), U18 DDR_A8 (out), U19 DDR_A6 (out), U21 DDR_DQ14 (io), V20 DDR_DQ12 (io), V21 DDR_DQ15 (io), V22 DDR_DQ24 (io), W20 DDR_DQ25 (io), W21 DDR_DQ31 (io), W22 DDR_DQ30 (io), Y21 DDR_DQS3P (io), Y22 DDR_DQS3N (io)
part C pins: A4 PE13 (io), A8 PD10 (io), A9 PD5 (io), A10 PE3 (io), A11 PA9 (io), A12 PB3 (io), A13 PB14 (io), AA3 PA0 (io), AA5 PB1 (io), AA6 PC5 (io), AA7 PB12 (io), AA8 PB5 (io), AA10 PF7 (io), AA11 PF6 (io), AB2 PA2 (io), AB3 PC1 (io), AB5 PB0 (io), AB6 PC4 (io), AB8 PB8 (io), AB9 PD11 (io), AB10 PF8 (io), AB11 PF9 (io), B4 PE14 (io), B9 PF1 (io), B10 PD1 (io), B11 PD3 (io), B12 PB15 (io), B13 PA8 (io), C4 PE15 (io), C5 PE0 (io), C9 PD4 (io), C10 PD0 (io), C12 PE5 (io), C13 PB4 (io), D5 PE11 (io), D7 PE1 (io), D9 PF5 (io), D12 PD2 (io), D13 PC7 (io), D14 PC9 (io), D15 PC11 (io), E4 PE12 (io), E9 PE6 (io), E10 PF0 (io), E11 PA15 (io), E12 PC12 (io), E13 PC6 (io), E14 PC8 (io), F9 PF4 (io), F10 PD7 (io), F11 PB7 (io), F12 PB9 (io), F13 PF2 (io), F14 PC10 (io), F15 PE4 (io), L1 PD15 (io), L3 PD6 (io), M1 PD8 (io), M2 PD9 (io), M3 PD14 (io), N2 PC13 (io), P1 PC14-OSC32_IN (io), P2 PC15-OSC32_OUT (io), R3 PA14 (io), T4 PA3 (io), U3 PC3 (io), U5 PA5 (io), U10 PC0 (io), V3 PF3 (io), V4 PA1 (io), V6 PA4 (io), V7 PF14 (io), V8 PF12 (io), V9 PB10 (io), V10 PB13 (io), V12 PF10 (io), V13 PB2 (io), V14 PD13 (io), W3 PA13 (io), W6 PF15 (io), W7 PF13 (io), W8 PF11 (io), W9 PA6 (io), W10 PE7 (io), W11 PE9 (io), W12 PD12 (io), W13 PB6 (io), W14 PE10 (io), W16 PA12 (io), Y1 PC2 (io), Y2 PE2 (io), Y5 PB11 (io), Y9 PA7 (io), Y12 PE8 (io), Y16 PA11 (io), Y17 PA10 (io)
part D pins: A2 PH5 (io), A3 PH4 (io), A5 PK6 (io), A6 PK4 (io), A7 PJ13 (io), AA1 PG13 (io), AA2 PG14 (io), AA9 PG10 (io), AB4 PG4 (io), AB7 PH2 (io), B1 PH10 (io), B3 PH11 (io), B5 PK7 (io), B6 PK3 (io), B7 PJ14 (io), B8 PJ12 (io), C1 PH15 (io), C2 PH14 (io), C6 PK5 (io), C7 PJ15 (io), D1 PI0 (io), D2 PI14 (io), D3 PH13 (io), D6 PH8 (io), D8 PK0 (io), D10 PG15 (io), D11 PG6 (io), E1 PI2 (io), E2 PI1 (io), E3 PI3 (io), E6 PH9 (io), E7 PK1 (io), E8 PK2 (io), F1 PI7 (io), F2 PI5 (io), F3 PI15 (io), F4 PZ3 (io), F5 PH12 (io), G1 PZ4 (io), G2 PZ0 (io), G3 PZ6 (io), G5 PI6 (io), H1 PI13 (io), H2 PI12 (io), H3 PZ7 (io), H4 PZ5 (io), H5 PZ1 (io), H6 PJ8 (io), J1 PJ3 (io), J2 PJ0 (io), J3 PJ10 (io), J4 PG12 (io), J5 PI9 (io), J6 PI4 (io), K1 PJ5 (io), K2 PJ4 (io), K4 PJ2 (io), K5 PZ2 (io), K6 PJ11 (io), L2 PJ9 (io), L4 PJ7 (io), L5 PJ6 (io), L6 PJ1 (io), N1 PI8 (io), T1 PH0-OSC_IN (io), T2 PH1-OSC_OUT (io), T3 PI11 (io), U4 PG3 (io), U8 PG5 (io), U11 PG11 (io), V11 PH6 (io), W1 PI10 (io), W2 PH7 (io), W4 PG2 (io), W5 PG0 (io), W15 PG9 (io), Y4 PG1 (io), Y6 PH3 (io), Y8 PG8 (io), Y11 PG7 (io)
part E pins: A14 VDD_DSI (power), A18 VDD1V2_DSI_PHY (power), AB12 VDDA1V8_REG  (power), AB13 VDD3V3_USBHS (power), AB16 VDD3V3_USBFS (power), AB17 VDDA1V1_REG (power), B14 VDDA1V8_DSI (power), B18 VDD1V2_DSI_REG (power), D18 VDD_PLL2 (power), E18 VDDQ_DDR (power), F17 VDDQ_DDR (power), G16 VDDQ_DDR (power), H9 VDDCORE (power), H11 VDDCORE (power), H13 VDDCORE (power), H15 VDDCORE (power), H17 VDDQ_DDR (power), J8 VDDCORE (power), J10 VDDCORE (power), J12 VDDCORE (power), J14  VDDCORE (power), J16 VDDQ_DDR (power), K9 VDDCORE (power), K11 VDDCORE (power), K13 VDDCORE (power), K15 VDDCORE (power), K17 VDDQ_DDR (power), L8 VDDCORE (power), L10 VDDCORE (power), L12 VDDCORE (power), L14 VDDCORE (power), L16 VDDQ_DDR (power), M4 VBAT (power), M6 VDD_PLL (power), M9 VDD (power), M11 VDDCORE (power), M13 VDDCORE (power), M15 VDDCORE (power), M17 VDDQ_DDR (power), N5 VDD_ANA (power), N6 VREF- (power), N8 VDD (power), N10 VDD (power), N12 VDDCORE (power), N14 VDDCORE (power), N16 VDDQ_DDR (power), P6 VREF+ (power), P9 VDD (power), P11 VDD (power), P13 VDDCORE (power), P15 VDDCORE (power), P17 VDDQ_DDR (power), R5 VDDA (power), R10 VDD (power), R12 VDD (power), R14 VDDCORE (power), R16 VDDQ_DDR (power), T13 VDD (power), T15 VDDCORE (power), T17 VDDQ_DDR (power), U9 VDD (power), U12 VDD (power), U14 VDD (power), U16 VDDQ_DDR (power), V17 VDDQ_DDR (power), W18 VDDQ_DDR (power), Y19 VDDQ_DDR (power)
part F pins: A1 VSS (power), A19 VSS (power), A22 VSS (power), AA4 VSS (power), AA13 VSS_USBHS (power), AA16 VSS_USBHS (power), AA18 VSS (power), AB1 VSS (power), AB18 VSS (power), AB22 VSS (power), B2 VSS (power), B19 VSS (power), C3 VSS (power), C8 VSS (power), C11 VSS (power), C14 VSS_DSI (power), C15 VSS_DSI (power), C16 VSS_DSI (power), C17 VSS_DSI (power), C18 VSS_DSI (power), C19 VSS (power), C20 VSS (power), D4 VSS (power), D19 VSS_PLL2 (power), E5 VSS (power), E19 VSS (power), F6 VSS (power), F7 VSS (power), F8 VSS (power), F16 VSS (power), F20 VSS (power), G4 VSS (power), G6 VSS (power), G8 VSS (power), G10 VSS (power), G12 VSS (power), G14 VSS (power), G17 VSS (power), H7 VSS (power), J9 VSS (power), J11 VSS (power), J13 VSS (power), J17 VSS (power), J20 VSS (power), K3 VSS (power), K7 VSS (power), K10 VSS (power), K12 VSS (power), K14 VSS (power), L9 VSS (power), L11 VSS (power), L13 VSS (power), L17 VSS (power), L19 VSS (power), L20 VSS (power), M5 VSS_PLL (power), M7 VSS (power), M10 VSS (power), M12 VSS (power), M14 VSS (power), N9 VSS (power), N11 VSS (power), N13 VSS (power), N17 VSS (power), P3 VSS (power), P5 VSS_ANA (power), P7 VSS (power), P10 VSS (power), P12 VSS (power), P14 VSS (power), P20 VSS (power), R6 VSSA (power), R8 VSS (power), R17 VSS (power), T6 VSSA (power), T7 VSS (power), T9 VSS (power), T11 VSS (power), T19 VSS (power), U6 VSSA (power), U7 VSS (power), U13 VSS (power), U15 VSS (power), U17 VSS (power), U20 VSS (power), V5 VSS (power), V16 VSS (power), V18 VSS (power), V19 VSS (power), W17 VSS (power), W19 VSS (power), Y3 VSS (power), Y7 VSS (power), Y10 VSS (power), Y13 VSS_USBHS (power), Y14 VSS_USBHS (power), Y15 VSS_USBHS (power), Y18 VSS (power), Y20 VSS (power)
part A text: LFBGA448
part B text: LFBGA448
part C text: LFBGA448
part D text: LFBGA448
part E text: LFBGA448
part F text: LFBGA448

## STM_PRESSURE_SENSOR
designator U?, comment LPS22HHTR
Pressure Sensor 3.77PSI ~ 18.27PSI (26kPa ~ 126kPa) Absolute 24 b 10-WFLGA; ComponentLink1Description: Digikey; ComponentLink1URL: https://www.digikey.ca/en/products/detail/stmicroelectronics/LPS22HHTR/9586578; ComponentLink2Description: Datasheet; ComponentLink2URL: https://www.st.com/resource/en/datasheet/lps22hh.pdf; ComponentLink3Description: LCSC; ComponentLink3URL: https://www.lcsc.com/product-detail/C2827824.html?s_z=n_LPS22HHTR
footprint HLGA-10L (10-HLGA (2.0x2.0))
pins: 1 VDD_IO, 2 SCL/SPC (in), 3 RSV, 4 SDA/SDI/SDO (io), 5 SDO/SA0 (out), 6 CS (in), 7 INT_DRDY (out), 8 GND, 9 GND, 10 VDD

## STM_TVS_DIODE_USBLC6-2SC6
designator U?, comment USBLC6-2SC6
17V Clamp 5A (8/20µs) Ipp Tvs Diode Surface Mount SOT-23-6; ComponentLink1Description: Digikey; ComponentLink1URL: https://www.digikey.ca/en/products/detail/stmicroelectronics/USBLC6-2SC6/1040559; ComponentLink2Description: Datasheet; ComponentLink2URL: https://www.st.com/resource/en/datasheet/cd00050750.pdf; ComponentLink3Description: LCSC; ComponentLink3URL: https://jlcpcb.com/partdetail/STMicroelectronics-USBLC62SC6/C7519
pins: 1 I/O1 (power), 2 GND (power), 3 I/O2 (power), 4 I/O2 (power), 5 VBUS (power), 6 I/O1 (power)

## TI_AMPLIFIER_TL072CDR
designator U?, comment TL072CDR
J-FET Amplifier 2 Circuit 8-SOIC; ComponentLink1Description: Digikey; ComponentLink1URL: https://www.digikey.ca/en/products/detail/texas-instruments/TL072CDR/276925; ComponentLink2Description: Datasheet; ComponentLink2URL: https://www.ti.com/lit/ds/symlink/tl071.pdf?HQS=dis-dk-null-digikeymode-dsf-pf-null-wwe&ts=1721694323530
footprint SOIC-8 (1.27mm pitch)
part A pins: 1 VOUTA (out), 2 VINA- (in), 3 VINA+ (in), 4 VSS (power), 8 VDD (power)
part B pins: 5 VINB+ (in), 6 VINB- (in), 7 VOUTB (out)

## TI_ANALOG_MUX_CD74HC4051M96
designator U?, comment CD74HC4051M96
1 Circuit IC Switch 8:1 130Ohm 16-SOIC; ComponentLink1Description: Digikey; ComponentLink1URL: https://www.digikey.ca/en/products/detail/texas-instruments/CD74HC4051M96/555818; ComponentLink2Description: Datasheet; ComponentLink2URL: https://www.ti.com/lit/ds/symlink/cd74hc4051.pdf?HQS=dis-dk-null-digikeymode-dsf-pf-null-wwe&ts=1767734148136&ref_url=https%253A%252F%252Fwww.ti.com%252Fgeneral%252Fdocs%252Fsuppproductinfo.tsp%253FdistId%253D10%2526gotoUrl%253Dhttps%253A%252F%252Fwww.ti.com%252Flit%252Fgpn%252Fcd74hc4051
footprint SOIC-16
pins: 1 A4 (io), 2 A6 (io), 3 A/COM OUT (io), 4 A7 (io), 5 A5 (io), 6 ~{E} (in), 7 VEE, 8 GND, 9 S2 (in), 10 S1 (in), 11 S0 (in), 12 A3 (io), 13 A0 (io), 14 A1 (io), 15 A2 (io), 16 VCC

## TI_ANALOG_MUX_CD74HC4067SM96
designator U?, comment CD74HC4067SM96
1 Circuit IC Switch 16:1 160Ohm 24-SSOP; ComponentLink1Description: Digikey; ComponentLink1URL: https://www.digikey.ca/en/products/detail/texas-instruments/CD74HC4067SM96/390310; ComponentLink2Description: Datasheet; ComponentLink2URL: https://www.ti.com/lit/ds/symlink/cd74hc4067.pdf?HQS=dis-dk-null-digikeymode-dsf-pf-null-wwe&ts=1768435325570&ref_url=https%253A%252F%252Fwww.ti.com%252Fgeneral%252Fdocs%252Fsuppproductinfo.tsp%253FdistId%253D10%2526gotoUrl%253Dhttps%253A%252F%252Fwww.ti.com%252Flit%252Fgpn%252Fcd74hc4067
footprint SSOP-24
pins: 1 COM I/O, 2 I7 (io), 3 I6 (io), 4 I5 (io), 5 I4 (io), 6 I3 (io), 7 I2 (io), 8 I1 (io), 9 I0 (io), 10 S0 (in), 11 S1 (in), 12 GND (power), 13 S3 (in), 14 S2 (in), 15 ~{E} (in), 16 I15 (io), 17 I14 (io), 18 I13 (io), 19 I12 (io), 20 I11 (io), 21 I10 (io), 22 I9 (io), 23 I8 (io), 24 VCC (power)

## TI_ANALOG_MUX_CD74HCT4067M
designator U?, comment CD74HCT4067M
1 Circuit IC Switch 16:1 180Ohm 24-SOIC; ComponentLink1Description: Digikey; ComponentLink1URL: https://www.digikey.ca/en/products/detail/texas-instruments/CD74HCT4067M/1507928; ComponentLink2Description: Datasheet; ComponentLink2URL: https://www.ti.com/general/docs/suppproductinfo.tsp?distId=10&gotoUrl=https%3A%2F%2Fwww.ti.com%2Flit%2Fgpn%2Fcd74hct4067
footprint SOIC-24_CD74HCT4067M (1 Circuit IC Switch 16:1 180Ohm 24-SOIC)
pins: 1 COM I/O, 2 I7 (io), 3 I6 (io), 4 I5 (io), 5 I4 (io), 6 I3 (io), 7 I2 (io), 8 I1 (io), 9 I0 (io), 10 S0 (in), 11 S1 (in), 12 GND (power), 13 S3 (in), 14 S2 (in), 15 ~{E} (in), 16 I15 (io), 17 I14 (io), 18 I13 (io), 19 I12 (io), 20 I11 (io), 21 I10 (io), 22 I9 (io), 23 I8 (io), 24 VCC (power)

## TI_BUFFER_NON_INVERTING_SN74ABT125DR
designator U?, comment SN74ABT125DR
Buffer, Non-Inverting 4 Element 1 Bit per Element 3-State Output 14-SOIC; ComponentLink1Description: Digikey; ComponentLink1URL: https://www.digikey.com/en/products/detail/texas-instruments/SN74ABT125DR/276663; ComponentLink2Description: Datasheet; ComponentLink2URL: https://www.ti.com/lit/ds/symlink/sn74abt125.pdf?HQS=dis-dk-null-digikeymode-dsf-pf-null-wwe&ts=1768683923020&ref_url=https%253A%252F%252Fwww.ti.com%252Fgeneral%252Fdocs%252Fsuppproductinfo.tsp%253FdistId%253D10%2526gotoUrl%253Dhttps%253A%252F%252Fwww.ti.com%252Flit%252Fgpn%252Fsn74abt125
pins: 1 1~{OE}, 2 1A, 3 1Y, 4 2~{OE}, 5 2A, 6 2Y, 7 GND, 8 3Y, 9 3A, 10 3~{OE}, 11 4Y, 12 4A, 13 4~{OE}, 14 VCC

## TI_CURRENT_MONITOR_REGULATOR_INA138NA/250
designator U?, comment INA138NA/250
Current Monitor Regulator High-Side SOT-23-5; ComponentLink1Description: Digikey; ComponentLink1URL: https://www.digikey.ca/en/products/detail/texas-instruments/INA138NA-250/307884; ComponentLink2Description: Datasheet; ComponentLink2URL: https://www.ti.com/general/docs/suppproductinfo.tsp?distId=10&gotoUrl=https%3A%2F%2Fwww.ti.com%2Flit%2Fgpn%2Fina138
footprint SOT-23-5_INA138NA/250 (Current Monitor Regulator High-Side SOT-23-5)
pins: 1 OUT (out), 2 GND (power), 3 VIN+ (in), 4 VIN- (in), 5 V+ (in)

## TI_CURRENT_SENSE_AMPLIFIER_INA180A3IDBVT
designator U?, comment INA180A3IDBVT
Current Sense Amplifier 1 Circuit Rail-to-Rail SOT-23-5; ComponentLink1Description: Digikey; ComponentLink1URL: https://www.digikey.ca/en/products/detail/texas-instruments/INA180A3IDBVT/7219029; ComponentLink2Description: Datasheet; ComponentLink2URL: https://www.ti.com/general/docs/suppproductinfo.tsp?distId=10&gotoUrl=https%3A%2F%2Fwww.ti.com%2Flit%2Fgpn%2Fina180

## TI_DCDC_CONTROLLER_LM5155DSSR
designator U?, comment LM5155DSSR
Boost, Flyback, SEPIC Regulator Positive Output Step-Up, Step-Up/Step-Down DC-DC Controller IC 12-WSON (3x2); ComponentLink1Description: Digikey; ComponentLink1URL: https://www.digikey.ca/en/products/detail/texas-instruments/LM5155DSSR/10434739; ComponentLink2Description: Datasheet; ComponentLink2URL: https://www.ti.com/general/docs/suppproductinfo.tsp?distId=10&gotoUrl=https%3A%2F%2Fwww.ti.com%2Flit%2Fgpn%2Flm5155
pins: 1 BIAS (power), 2 VCC (power), 3 GATE (out), 4 PGND (power), 5 CS (in), 6 COMP (out), 7 AGND (power), 8 FB (in), 9 SS (in), 10 RT (in), 11 PGOOD (out), 12 UVLO/EN/SYNC (in), 13 EP (power)

## TI_DIFFERENTIAL_COMPARATOR_LM339ADR
designator U?, comment LM339ADR
Comparator Standard (General Purpose) Open-Collector 14-SOIC; ComponentLink1Description: Digikey; ComponentLink1URL: https://www.digikey.ca/en/products/detail/texas-instruments/LM339ADR/372791; ComponentLink2Description: Datasheet; ComponentLink2URL: https://www.ti.com/lit/ds/symlink/lm139.pdf?ts=1753716937461&ref_url=https%253A%252F%252Fwww.ti.com%252Fproduct%252FLM139
footprint TI_DIFFERENTIAL_COMPARATOR_LM339ADR (Comparator Standard (General Purpose) Open-Collector 14-SOIC)
part A pins: 2 2OUT (out), 3 VCC (power), 4 2IN– (in), 5 2IN+ (in), 12 GND (power)
part B pins: 1 1OUT (out), 6 1IN– (in), 7 1IN+ (in)
part C pins: 8 3IN– (in), 9 3IN+ (in), 14 3OUT (out)
part D pins: 10 4IN– (in), 11 4IN+ (in), 13 4OUT (out)

## TI_DS34LV87TMX/NOPB
designator U?, comment DS34LV87
4/0 Driver RS422, RS485 16-SOIC; ComponentLink1Description: Digikey; ComponentLink1URL: https://www.digikey.ca/en/products/detail/texas-instruments/DS34LV87TMX-NOPB/366559; ComponentLink2Description: Datasheet; ComponentLink2URL: https://www.ti.com/general/docs/suppproductinfo.tsp?distId=10&gotoUrl=https%3A%2F%2Fwww.ti.com%2Flit%2Fgpn%2Fds34lv87t
footprint SOIC-16
pins: 1 DI1 (in), 2 DO1+ (out), 3 DO1- (out), 4 EN (in), 5 DO2- (out), 6 DO2+ (out), 7 DI2 (in), 8 GND (power), 9 DI3 (in), 10 DO3+ (out), 11 DO3- (out), 12 EN (in), 13 DO4- (out), 14 DO4+ (out), 15 DI4 (in), 16 VCC (power)

## TI_OPAMP_2CH_OPA2192IDR
designator U?, comment OPA2192IDR
Standard (General Purpose) Amplifier 2 Circuit Rail-to-Rail 8-SOIC; ComponentLink1Description: Digikey; ComponentLink1URL: https://www.digikey.com/en/products/detail/texas-instruments/OPA2192IDR/5224962; ComponentLink2Description: Datahseet; ComponentLink2URL: https://www.ti.com/general/docs/suppproductinfo.tsp?distId=10&gotoUrl=https%3A%2F%2Fwww.ti.com%2Flit%2Fgpn%2Fopa192
footprint TI_OPAMP_2CH_OPA2192IDR (Standard (General Purpose) Amplifier 2 Circuit Rail-to-Rail 8-SOIC)
part A pins: 1 OUTA (out), 2 -INA (in), 3 +INA (in), 4 V- (power), 8 V+ (power)
part B pins: 5 +INB (in), 6 -INB (in), 7 OUTB (out)

## TI_OPAMP_2CH_OPA2205ADR
designator U?, comment OPA2205ADR
Standard (General Purpose) Amplifier 2 Circuit Push-Pull, Rail-to-Rail 8-SOIC; ComponentLink1Description: Digikey; ComponentLink1URL: https://www.digikey.ca/en/products/detail/texas-instruments/OPA2205ADR/19236316; ComponentLink2Description: Datahseet; ComponentLink2URL: https://www.ti.com/lit/ds/symlink/opa2205.pdf
part A pins: 1 OUTA (out), 2 -INA (in), 3 +INA (in), 4 V- (power), 8 V+ (power)
part B pins: 5 +INB (in), 6 -INB (in), 7 OUTB (out)

## TI_OPAMP_2CH_OPA2376AQDRQ1
designator U?, comment OPA2376AQDRQ1
Standard (General Purpose) Amplifier 2 Circuit Single Ended, Rail-to-Rail 8-SOIC; ComponentLink1Description: Digikey; ComponentLink1URL: https://www.digikey.ca/en/products/detail/texas-instruments/OPA2376AQDRQ1/5866535; ComponentLink2Description: Datahseet; ComponentLink2URL: https://www.ti.com/lit/ds/symlink/opa2376-q1.pdf?HQS=dis-dk-null-digikeymode-dsf-pf-null-wwe&ts=1788616656060&ref_url=https%253A%252F%252Fwww.ti.com%252F
footprint TI_OPAMP_2CH_OPA2376AQDRQ1 (Standard (General Purpose) Amplifier 2 Circuit Single Ended, Rail-to-Rail 8-SOIC)
part A pins: 1 OUTA (out), 2 -INA (in), 3 +INA (in), 4 V- (power), 8 V+ (power)
part B pins: 5 +INB (in), 6 -INB (in), 7 OUTB (out)

## TI_POWER_SWITCH_DRIVER_TPS2561ADRCR
designator U?, comment TPS2561ADRCR
Power Switch/Driver 1:2 N-Channel 2.5A 10-VSON (3x3); ComponentLink1Description: Digikey; ComponentLink1URL: https://www.digikey.com/en/products/detail/texas-instruments/TPS2561ADRCR/3431165; ComponentLink2Description: Datasheet; ComponentLink2URL: https://www.ti.com/general/docs/suppproductinfo.tsp?distId=10&gotoUrl=https%3A%2F%2Fwww.ti.com%2Flit%2Fgpn%2Ftps2561a
pins: 1 GND (power), 2 IN (in), 3 IN (in), 4 EN1 (in), 5 EN2 (in), 6 ~{FAULT2} (out), 7 ILIM (out), 8 OUT2 (out), 9 OUT1 (out), 10 ~{FAULT1} (out), 11 EP (power)

## TI_SHIFT_REGISTER_SN74HC165DR
designator U?, comment SN74HC165DR
Shift Shift Register 1 Element 8 Bit 16-SOIC; ComponentLink1Description: Digikey; ComponentLink1URL: https://www.digikey.ca/en/products/detail/texas-instruments/SN74HC165DR/377068; ComponentLink2Description: Datasheet; ComponentLink2URL: https://www.ti.com/lit/ds/symlink/sn74hc165.pdf?HQS=dis-dk-null-digikeymode-dsf-pf-null-wwe&ts=1768473103810&ref_url=https%253A%252F%252Fwww.ti.com%252Fgeneral%252Fdocs%252Fsuppproductinfo.tsp%253FdistId%253D10%2526gotoUrl%253Dhttps%253A%252F%252Fwww.ti.com%252Flit%252Fgpn%252Fsn74hc165
footprint SOIC-16
pins: 1 SH/~{LD} (in), 2 CLK (in), 3 E (in), 4 F (in), 5 G (in), 6 H (in), 7 ~{QH} (out), 8 GND (power), 9 QH (out), 10 SER (in), 11 A (in), 12 B (in), 13 C (in), 14 D (in), 15 CLK INH (in), 16 VCC (power)

## TI_SHIFT_REGISTER_SN74HC595DR
designator U?, comment SN74HC595DR
Shift Shift Register 1 Element 8 Bit 16-SOIC; ComponentLink1Description: Digikey; ComponentLink1URL: https://www.digikey.ca/en/products/detail/texas-instruments/SN74HC595DR/562567; ComponentLink2Description: Datasheet; ComponentLink2URL: https://www.ti.com/general/docs/suppproductinfo.tsp?distId=10&gotoUrl=https%3A%2F%2Fwww.ti.com%2Flit%2Fgpn%2Fsn74hc595
footprint SOIC-16
pins: 1 QB (out), 2 QC (out), 3 QD (out), 4 QE (out), 5 QF (out), 6 QG (out), 7 QH (out), 8 GND, 9 QH' (out), 10 ~{SRCLR} (in), 11 SRCLK (in), 12 RCLK (in), 13 ~{OE} (in), 14 SER (in), 15 QA (out), 16 VCC

## TI_TRANSCEIVER_RS422_RS485_SN65HVD10DR
designator U?, comment SN65HVD10DR
1/1 Transceiver Half RS422, RS485 8-SOIC; ComponentLink1Description: Digikey; ComponentLink1URL: https://www.digikey.com/en/products/detail/texas-instruments/SN65HVD10DR/1574463; ComponentLink2Description: Datasheet; ComponentLink2URL: https://www.ti.com/lit/ds/symlink/sn65hvd11.pdf?HQS=dis-dk-null-digikeymode-dsf-pf-null-wwe&ts=1769276361792&ref_url=https%253A%252F%252Fwww.ti.com%252Fgeneral%252Fdocs%252Fsuppproductinfo.tsp%253FdistId%253D10%2526gotoUrl%253Dhttps%253A%252F%252Fwww.ti.com%252Flit%252Fgpn%252Fsn65hvd11
footprint SOIC-8 (1.27mm pitch)
pins: 1 R (out), 2 ~{RE} (in), 3 DE (in), 4 D (in), 5 GND (power), 6 A (io), 7 B (io), 8 VCC (power)

## TI_VLT_BIDIR_TXS0101DBVR
designator U?, comment TXS0101DBVR
Voltage Level Translator Bidirectional 1 Circuit 1 Channel 24Mbps SOT-23-6; ComponentLink1Description: Digikey; ComponentLink1URL: https://www.digikey.ca/en/products/detail/texas-instruments/TXS0101DBVR/1739892; ComponentLink2Description: Datahseet; ComponentLink2URL: https://www.ti.com/lit/ds/symlink/txs0101.pdf?HQS=dis-dk-null-digikeymode-dsf-pf-null-wwe&ts=1768752346307&ref_url=https%253A%252F%252Fwww.ti.com%252Fgeneral%252Fdocs%252Fsuppproductinfo.tsp%253FdistId%253D10%2526gotoUrl%253Dhttps%253A%252F%252Fwww.ti.com%252Flit%252Fgpn%252Ftxs0101
footprint SOT-23-6_TXS0101DBVR (Voltage Level Translator Bidirectional 1 Circuit 1 Channel 24Mbps SOT-23-6)
pins: 1 VCCA (power), 2 GND (power), 3 A (io), 4 B (io), 5 OE (in), 6 VCCB (power)

## TI_VLT_BIDIR_TXS0102DCUR
designator U?, comment TXS0102DCUR
Voltage Level Translator Bidirectional 1 Circuit 2 Channel 24Mbps 8-VSSOP; ComponentLink1Description: Digikey; ComponentLink1URL: https://www.digikey.ca/en/products/detail/texas-instruments/TXS0102DCUR/1629104; ComponentLink2Description: Datasheet; ComponentLink2URL: https://www.ti.com/general/docs/suppproductinfo.tsp?distId=10&gotoUrl=https%3A%2F%2Fwww.ti.com%2Flit%2Fgpn%2Ftxs0102
footprint VSSOP-8_TXS0102DCUR
pins: 1 VCCA (power), 2 A1 (power), 3 A2 (power), 4 GND (power), 5 OE (power), 6 B2 (power), 7 B1 (power), 8 VCCB (power)

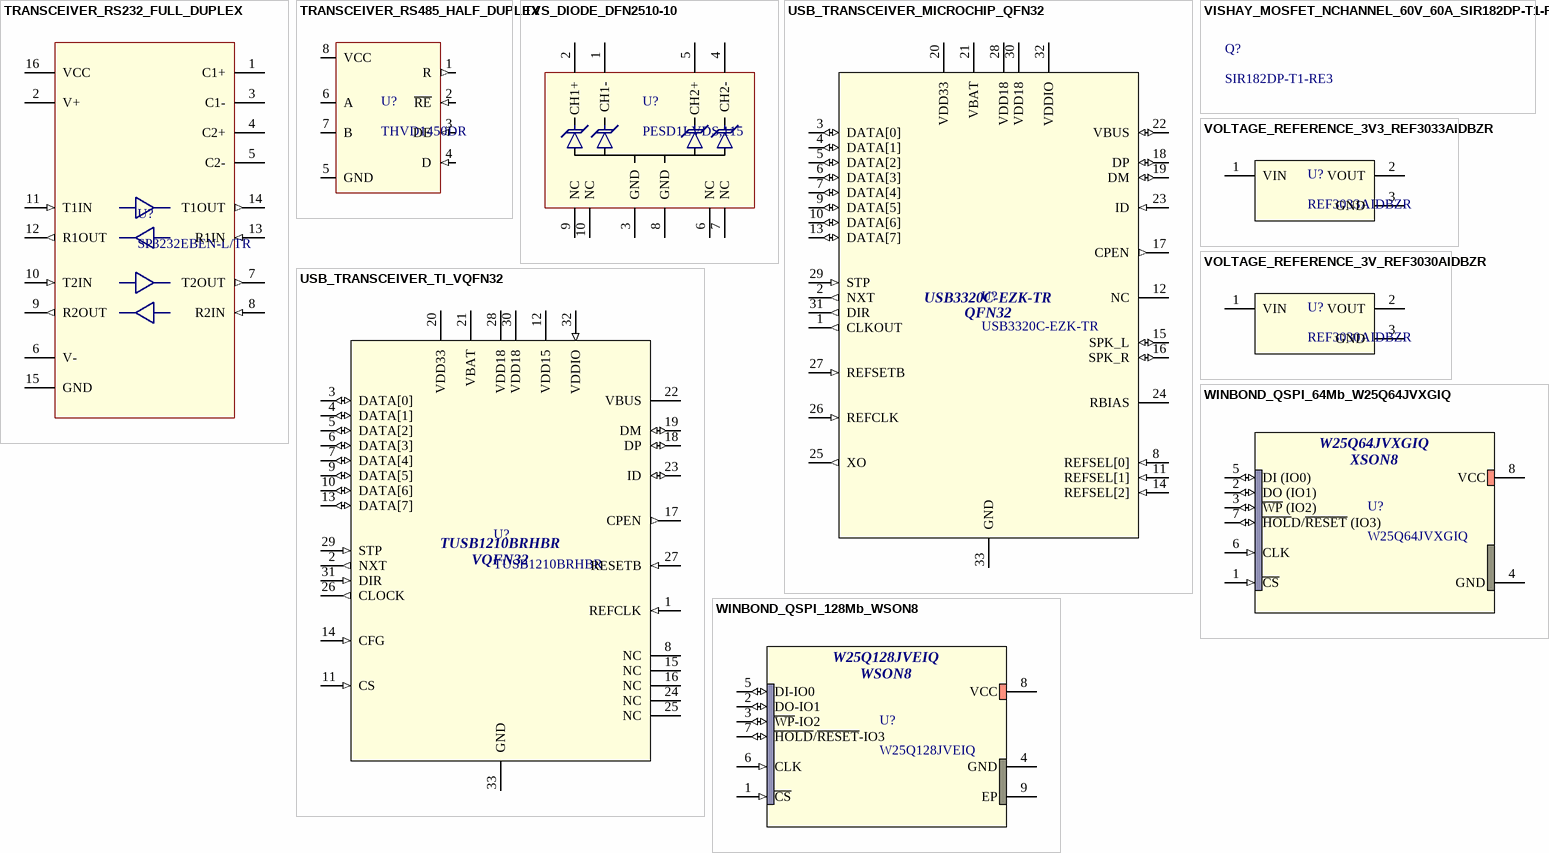
[diagram p21: symbols TRANSCEIVER_RS232_FULL_DUPLEX to WINBOND_QSPI_128Mb_WSON8]

## TRANSCEIVER_RS232_FULL_DUPLEX
designator U?, comment SP3232EBEN-L/TR
2/2 Transceiver Full RS232 16-SOIC; ComponentLink1Description: Digikey; ComponentLink1URL: https://www.digikey.com/en/products/detail/maxlinear-inc/SP3232EBEN-L-TR/2471809; ComponentLink2Description: Datasheet; ComponentLink2URL: https://mm.digikey.com/Volume0/opasdata/d220001/medias/docus/6633/SP3222E_SP3232E.pdf
footprint SOIC-16
pins: 1 C1+, 2 V+, 3 C1-, 4 C2+, 5 C2-, 6 V-, 7 T2OUT (out), 8 R2IN (in), 9 R2OUT (out), 10 T2IN (in), 11 T1IN (in), 12 R1OUT (out), 13 R1IN (in), 14 T1OUT (out), 15 GND, 16 VCC

## TRANSCEIVER_RS485_HALF_DUPLEX
designator U?, comment THVD1450DR
Transceiver RS485 Half-Duplex 3V~5.5V SOIC-8; ComponentLink1Description: Digikey; ComponentLink1URL: https://www.digikey.ca/en/products/detail/texas-instruments/THVD1450DR/9356550; ComponentLink2Description: Datasheet; ComponentLink2URL: https://www.ti.com/lit/ds/symlink/thvd1450.pdf?HQS=dis-dk-null-digikeymode-dsf-pf-null-wwe&ts=1760925062082&ref_url=https%253A%252F%252Fwww.ti.com%252Fgeneral%252Fdocs%252Fsuppproductinfo.tsp%253FdistId%253D10%2526gotoUrl%253Dhttps%253A%252F%252Fwww.ti.com%252Flit%252Fgpn%252Fthvd1450; ComponentLink3Description: LCSC; ComponentLink3URL: https://www.lcsc.com/product-detail/C2671361.html?s_z=n_THVD1450DR
footprint SOIC-8 (1.27mm pitch)
pins: 1 R (out), 2 ~{RE} (in), 3 DE (in), 4 D (in), 5 GND, 6 A (io), 7 B (io), 8 VCC

## TVS_DIODE_DFN2510-10
designator U?, comment PESD1LVDS,115
Clamp Ipp Tvs Diode Surface Mount DFN2510-10; ComponentLink1Description: Digikey; ComponentLink1URL: https://www.digikey.ca/en/products/detail/nexperia-usa-inc/PESD1LVDS-115/4020952; ComponentLink2Description: Datasheet; ComponentLink2URL: https://assets.nexperia.com/documents/data-sheet/PESD1LVDS.pdf
footprint XFDFN-10 (1.27mm pitch)
pins: 1 CH1-, 2 CH1+, 3 GND (power), 4 CH2-, 5 CH2+, 6 NC, 7 NC, 8 GND (power), 9 NC, 10 NC

## USB_TRANSCEIVER_MICROCHIP_QFN32
designator U?, comment USB3320C-EZK-TR
1/1 Transceiver Half USB 2.0 32-QFN (5x5); ComponentLink1Description: Digikey; ComponentLink1URL: https://www.digikey.ca/en/products/detail/microchip-technology/USB3320C-EZK-TR/3873191; ComponentLink2Description: Mouser; ComponentLink2URL: https://www.mouser.ca/ProductDetail/Microchip-Technology/USB3320C-EZK-TR?qs=pA5MXup5wxFLWWzXkMzUXA%3D%3D; ComponentLink3Description: Datasheet; ComponentLink3URL: https://ww1.microchip.com/downloads/en/DeviceDoc/00001792E.pdf
pins: 1 CLKOUT (out), 2 NXT (out), 3 DATA[0] (io), 4 DATA[1] (io), 5 DATA[2] (io), 6 DATA[3] (io), 7 DATA[4] (io), 8 REFSEL[0] (in), 9 DATA[5] (io), 10 DATA[6] (io), 11 REFSEL[1] (in), 12 NC, 13 DATA[7] (io), 14 REFSEL[2] (in), 15 SPK_L (io), 16 SPK_R (io), 17 CPEN (out), 18 DP (io), 19 DM (io), 20 VDD33 (power), 21 VBAT (power), 22 VBUS (io), 23 ID (in), 24 RBIAS, 25 XO (out), 26 REFCLK (in), 27 REFSETB (in), 28 VDD18 (power), 29 STP (in), 30 VDD18 (power), 31 DIR (out), 32 VDDIO (power), 33 GND
text: QFN32

## USB_TRANSCEIVER_TI_VQFN32
designator U?, comment TUSB1210BRHBR
1/1 Transceiver Half USB 2.0 32-VQFN (5x5); ComponentLink1Description: Digikey; ComponentLink1URL: https://www.digikey.ca/en/products/detail/texas-instruments/TUSB1210BRHBR/2627246; ComponentLink2Description: Mouser; ComponentLink2URL: https://www.mouser.ca/ProductDetail/Texas-Instruments/TUSB1210BRHBR?qs=O1HRStiETCjoz%252BwGuQj%2Fxg%3D%3D; ComponentLink3Description: Datasheet; ComponentLink3URL: https://www.ti.com/lit/ds/symlink/tusb1210.pdf?HQS=dis-dk-null-digikeymode-dsf-pf-null-wwe&ts=1764259879862&ref_url=https%253A%252F%252Fwww.ti.com%252Fgeneral%252Fdocs%252Fsuppproductinfo.tsp%253FdistId%253D10%2526gotoUrl%253Dhttps%253A%252F%252Fwww.ti.com%252Flit%252Fgpn%252Ftusb1210
pins: 1 REFCLK (in), 2 NXT (out), 3 DATA[0] (io), 4 DATA[1] (io), 5 DATA[2] (io), 6 DATA[3] (io), 7 DATA[4] (io), 8 NC, 9 DATA[5] (io), 10 DATA[6] (io), 11 CS (in), 12 VDD15 (power), 13 DATA[7] (io), 14 CFG (in), 15 NC, 16 NC, 17 CPEN (out), 18 DP (io), 19 DM (io), 20 VDD33 (power), 21 VBAT (power), 22 VBUS (power), 23 ID (io), 24 NC, 25 NC, 26 CLOCK (out), 27 RESETB (in), 28 VDD18 (power), 29 STP (in), 30 VDD18 (power), 31 DIR (in), 32 VDDIO (in), 33 GND (power)
text: VQFN32

## VISHAY_MOSFET_NCHANNEL_60V_60A_SIR182DP-T1-RE3
designator Q?, comment SIR182DP-T1-RE3
N-Channel 60 V 60A (Tc) 69.4W (Tc) Surface Mount PowerPAK® SO-8; ComponentLink1Description: Digikey; ComponentLink1URL: https://www.digikey.ca/en/products/detail/vishay-siliconix/SIR182DP-T1-RE3/7616340; ComponentLink2Description: Datasheet; ComponentLink2URL: https://www.vishay.com/docs/77800/sir182dp.pdf

## VOLTAGE_REFERENCE_3V3_REF3033AIDBZR
designator U?, comment REF3033AIDBZR
Series Voltage Reference IC Fixed 3V3 ±0.2% 25 mA SOT-23-3; ComponentLink1Description: Digikey; ComponentLink1URL: https://www.digikey.ca/en/products/detail/texas-instruments/REF3033AIDBZR/1573916; ComponentLink2Description: Datasheet; ComponentLink2URL: https://www.ti.com/lit/ds/symlink/ref30.pdf?ts=1743588330976&ref_url=https%253A%252F%252Fwww.ti.com%252Fproduct%252FREF30%252Fpart-details%252FREF3033AIDBZT%253FkeyMatch%253DREF3033AIDBZT%2526tisearch%253Duniversal_search%2526usecase%253DOPN; ComponentLink3Description: LCSC; ComponentLink3URL: https://www.lcsc.com/product-detail/C36658.html?s_z=n_REF3033AIDBZR
footprint VOLTAGE_REFERENCE_3V3_REF3033AIDBZR (Series Voltage Reference IC Fixed 3V3 ±0.2% 25 mA SOT-23-3)
pins: 1 VIN, 2 VOUT, 3 GND

## VOLTAGE_REFERENCE_3V_REF3030AIDBZR
designator U?, comment REF3030AIDBZR
Series Voltage Reference IC Fixed 3V V ±0.2% 25 mA SOT-23-3; ComponentLink1Description: Digikey; ComponentLink1URL: https://www.digikey.com/en/products/detail/texas-instruments/REF3030AIDBZR/1573913; ComponentLink2Description: Datasheet; ComponentLink2URL: https://www.ti.com/lit/ds/symlink/ref30.pdf?ts=1743588330976&ref_url=https%253A%252F%252Fwww.ti.com%252Fproduct%252FREF30%252Fpart-details%252FREF3033AIDBZT%253FkeyMatch%253DREF3033AIDBZT%2526tisearch%253Duniversal_search%2526usecase%253DOPN
footprint VOLTAGE_REFERENCE_3V_REF3030AIDBZR (Series Voltage Reference IC Fixed 3V V ±0.2% 25 mA SOT-23-3)
pins: 1 VIN, 2 VOUT, 3 GND

## WINBOND_QSPI_64Mb_W25Q64JVXGIQ
designator U?, comment W25Q64JVXGIQ
FLASH - NOR Memory IC 64Mbit SPI - Quad I/O 133 MHz 6 ns 8-XSON (4x4); ComponentLink1Description: Digikey; ComponentLink1URL: https://www.digikey.ca/en/products/detail/winbond-electronics/W25Q64JVXGIQ-TR/15181863; ComponentLink2Description: Datasheet; ComponentLink2URL: https://www.winbond.com/resource-files/W25Q64JV%20RevK%2003102021%20Plus.pdf
footprint XSON-4x4_W25Q64JVXGIQ (FLASH - NOR Memory IC 64Mbit SPI - Quad I/O 133 MHz 6 ns 8-XSON (4x4)+)
pins: 1 ~{CS} (in), 2 DO (IO1) (io), 3 ~{WP} (IO2) (io), 4 GND (power), 5 DI (IO0) (io), 6 CLK (in), 7 ~{HOL}D/~{RESET} (IO3) (io), 8 VCC (power)
text: XSON8

## WINBOND_QSPI_128Mb_WSON8
designator U?, comment W25Q128JVEIQ
FLASH - NOR Memory IC 128Mbit SPI - Quad I/O, QPI 133 MHz 8-WSON (8x6); ComponentLink1Description: Digikey; ComponentLink1URL: https://www.digikey.ca/en/products/detail/winbond-electronics/W25Q128JVEIQ/6819667; ComponentLink2Description: Mouser; ComponentLink2URL: https://www.mouser.ca/ProductDetail/Winbond/W25Q128JVEIQ?qs=qSfuJ%252Bfl%2Fd667JrLNi7hwg%3D%3D; ComponentLink3Description: Datasheeet; ComponentLink3URL: https://www.winbond.com/resource-files/w25q128jv%20revf%2003272018%20plus.pdf
footprint WSON8-8x6 (WSON 6x5-mm/ 8x6-mm)
pins: 1 ~{CS} (in), 2 DO-IO1 (io), 3 ~{WP}-IO2 (io), 4 GND (power), 5 DI-IO0 (io), 6 CLK (in), 7 ~{HOLD}/~{RESET}-IO3 (io), 8 VCC (power), 9 EP (power)
text: WSON8